# Altium integrated library Integrated_Library1.IntLib: 2483 symbols (part 9 of 13)
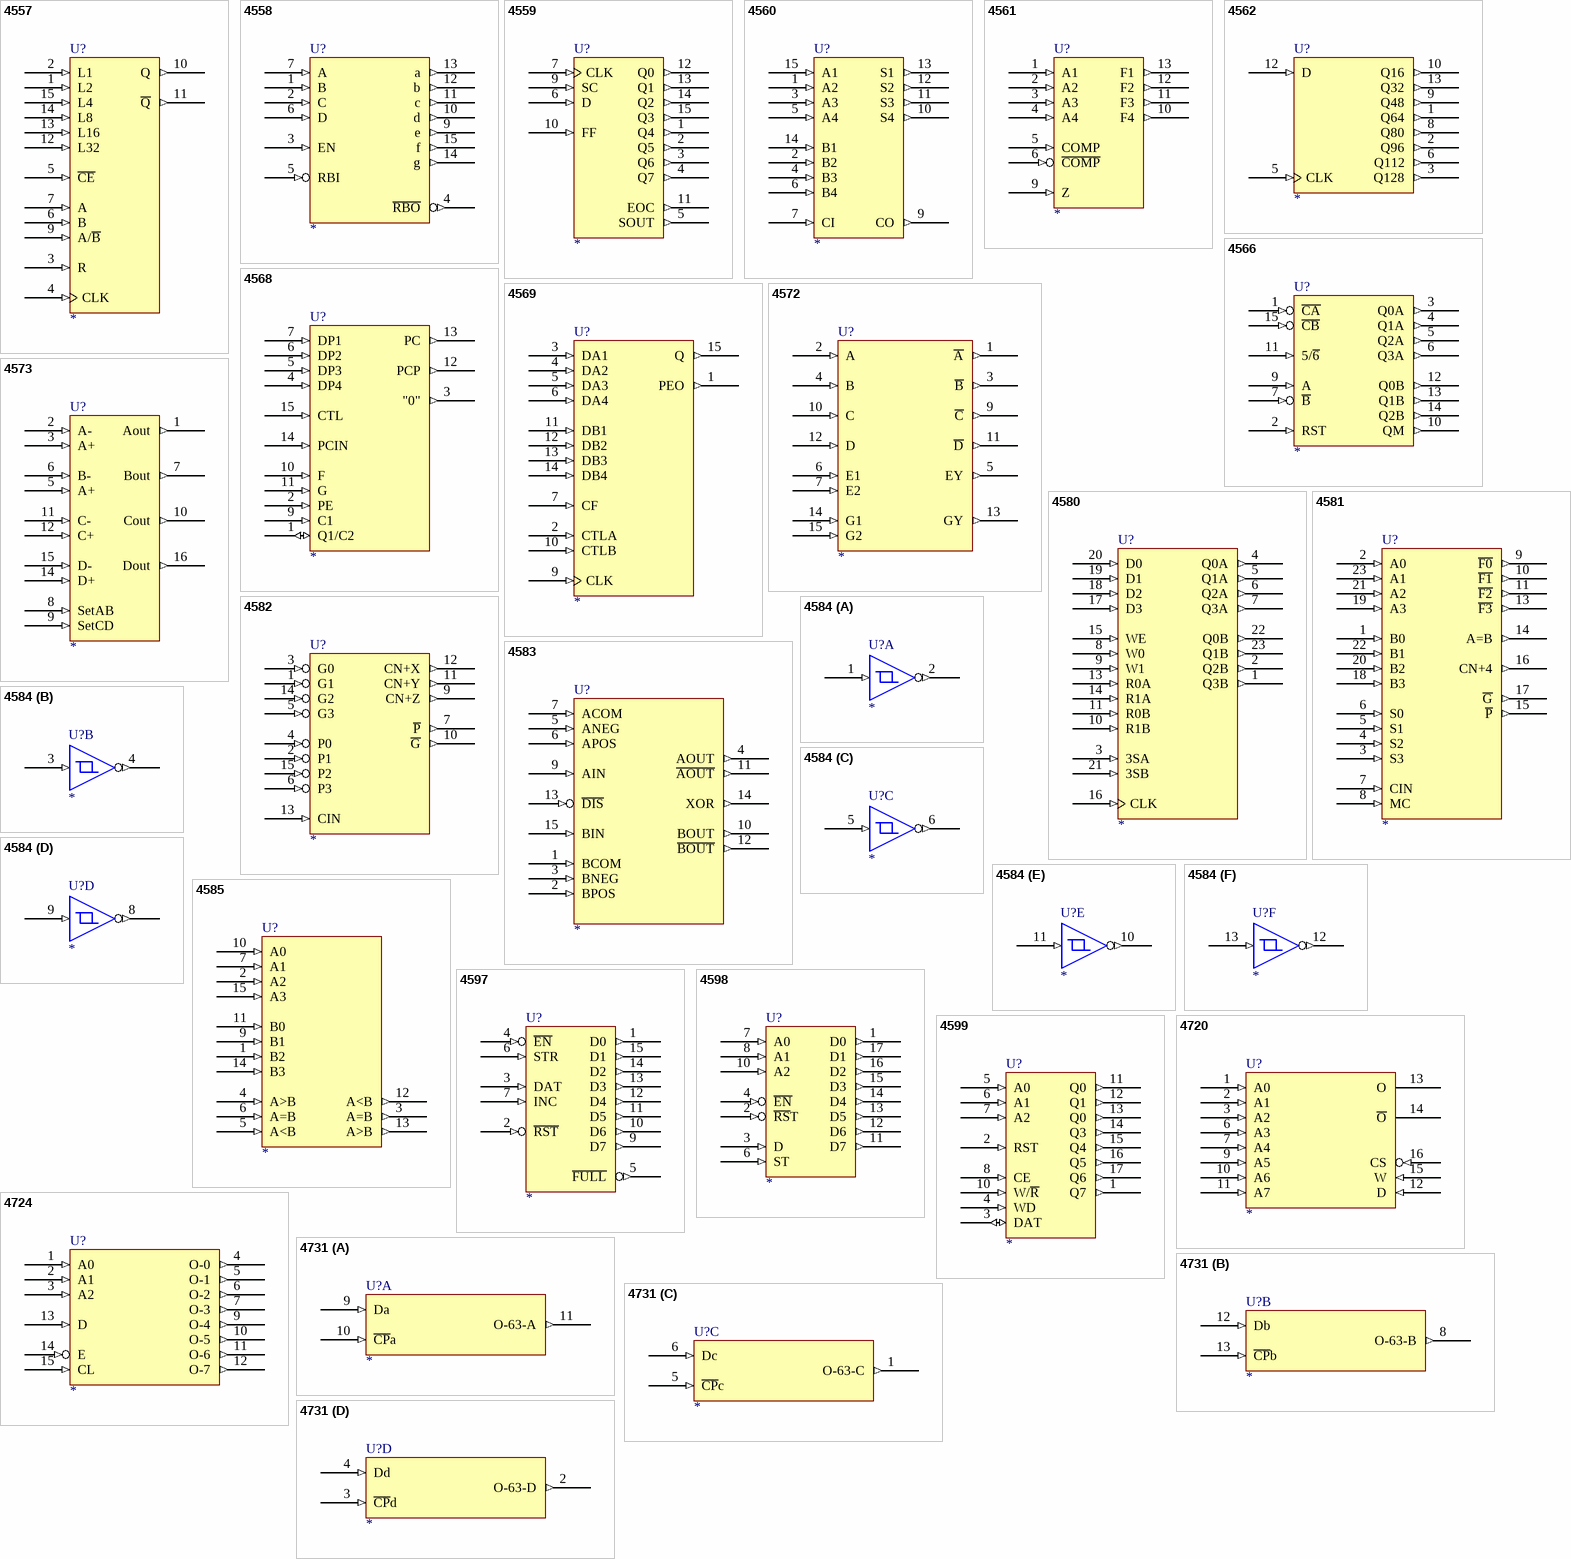
[diagram p116: symbols 4557 to 4731]

## 4569
designator U?
footprint DIP-16
pins: 1 PEO (out), 2 CTLA (in), 3 DA1 (in), 4 DA2 (in), 5 DA3 (in), 6 DA4 (in), 7 CF (in), 8 GND (power) hidden to GND, 9 CLK (in), 10 CTLB (in), 11 DB1 (in), 12 DB2 (in), 13 DB3 (in), 14 DB4 (in), 15 Q (out), 16 VCC (power) hidden to VCC

## 4572
designator U?
footprint DIP-16
pins: 1 ~{A} (out), 2 A (in), 3 ~{B} (out), 4 B (in), 5 EY (out), 6 E1 (in), 7 E2 (in), 8 GND (power) hidden to GND, 9 ~{C} (out), 10 C (in), 11 ~{D} (out), 12 D (in), 13 GY (out), 14 G1 (in), 15 G2 (in), 16 VCC (power) hidden to VCC

## 4573
designator U?
footprint DIP-16
pins: 1 Aout (out), 2 A- (in), 3 A+ (in), 4 VCC (power) hidden to VCC, 5 A+ (in), 6 B- (in), 7 Bout (out), 8 SetAB (in), 9 SetCD (in), 10 Cout (out), 11 C- (in), 12 C+ (in), 13 GND (power) hidden to GND, 14 D+ (in), 15 D- (in), 16 Dout (out)

## 4580
designator U?
footprint DIP-24
pins: 1 Q3B (out), 2 Q2B (out), 3 3SA (in), 4 Q0A (out), 5 Q1A (out), 6 Q2A (out), 7 Q3A (out), 8 W0 (in), 9 W1 (in), 10 R1B (in), 11 R0B (in), 12 GND (power) hidden to GND, 13 R0A (in), 14 R1A (in), 15 WE (in), 16 CLK (in), 17 D3 (in), 18 D2 (in), 19 D1 (in), 20 D0 (in), 21 3SB (in), 22 Q0B (out), 23 Q1B (out), 24 VCC (power) hidden to VCC

## 4581
designator U?
footprint DIP-24
pins: 1 B0 (in), 2 A0 (in), 3 S3 (in), 4 S2 (in), 5 S1 (in), 6 S0 (in), 7 CIN (in), 8 MC (in), 9 ~{F0} (out), 10 ~{F1} (out), 11 ~{F2} (out), 12 GND (power) hidden to GND, 13 ~{F3} (out), 14 A=B (out), 15 ~{P} (out), 16 CN+4 (out), 17 ~{G} (out), 18 B3 (in), 19 A3 (in), 20 B2 (in), 21 A2 (in), 22 B1 (in), 23 A1 (in), 24 VCC (power) hidden to VCC

## 4582
designator U?
footprint DIP-16
pins: 1 G1 (in), 2 P1 (in), 3 G0 (in), 4 P0 (in), 5 G3 (in), 6 P3 (in), 7 ~{P} (out), 8 GND (power) hidden to GND, 9 CN+Z (out), 10 ~{G} (out), 11 CN+Y (out), 12 CN+X (out), 13 CIN (in), 14 G2 (in), 15 P2 (in), 16 VCC (power) hidden to VCC

## 4583
designator U?
footprint DIP-16
pins: 1 BCOM (in), 2 BPOS (in), 3 BNEG (in), 4 AOUT (out), 5 ANEG (in), 6 APOS (in), 7 ACOM (in), 8 GND (power) hidden to GND, 9 AIN (in), 10 BOUT (out), 11 ~{AOUT} (out), 12 ~{BOUT} (out), 13 ~{DIS} (in), 14 XOR (out), 15 BIN (in), 16 VCC (power) hidden to VCC

## 4584
designator U?
footprint DIP-14
part A pins: 1 (in), 2 (out), 7 GND (power) hidden to GND, 14 VCC (power) hidden to VCC
part B pins: 3 (in), 4 (out), 7 GND (power) hidden to GND, 14 VCC (power) hidden to VCC
part C pins: 5 (in), 6 (out), 7 GND (power) hidden to GND, 14 VCC (power) hidden to VCC
part D pins: 7 GND (power) hidden to GND, 8 (out), 9 (in), 14 VCC (power) hidden to VCC
part E pins: 7 GND (power) hidden to GND, 10 (out), 11 (in), 14 VCC (power) hidden to VCC
part F pins: 7 GND (power) hidden to GND, 12 (out), 13 (in), 14 VCC (power) hidden to VCC

## 4585
designator U?
footprint DIP-16
pins: 1 B2 (in), 2 A2 (in), 3 A=B (out), 4 A>B (in), 5 A<B (in), 6 A=B (in), 7 A1 (in), 8 GND (power) hidden to GND, 9 B1 (in), 10 A0 (in), 11 B0 (in), 12 A<B (out), 13 A>B (out), 14 B3 (in), 15 A3 (in), 16 VCC (power) hidden to VCC

## 4597
designator U?
footprint DIP-16
pins: 1 D0 (out), 2 ~{RST} (in), 3 DAT (in), 4 ~{EN} (in), 5 ~{FULL} (out), 6 STR (in), 7 INC (in), 8 GND (power) hidden to GND, 9 D7 (out), 10 D6 (out), 11 D5 (out), 12 D4 (out), 13 D3 (out), 14 D2 (out), 15 D1 (out), 16 VCC (power) hidden to VCC

## 4598
designator U?
footprint DIP-16
pins: 1 D0 (out), 2 ~{RS}T (in), 3 D (in), 4 ~{EN} (in), 6 ST (in), 7 A0 (in), 8 A1 (in), 8 GND (power) hidden to GND, 10 A2 (in), 11 D7 (out), 12 D6 (out), 13 D5 (out), 14 D4 (out), 15 D3 (out), 16 D2 (out), 16 VCC (power) hidden to VCC, 17 D1 (out)

## 4599
designator U?
footprint DIP-18
pins: 1 Q7 (out), 2 RST (in), 3 DAT (io), 4 WD (in), 5 A0 (in), 6 A1 (in), 7 A2 (in), 8 CE (in), 9 GND (power) hidden to GND, 10 W/~{R} (in), 11 Q0 (out), 12 Q1 (out), 13 Q0 (out), 14 Q3 (out), 15 Q4 (out), 16 Q5 (out), 17 Q6 (out), 18 VCC (power) hidden to VCC

## 4720
designator U?
footprint DIP-16
pins: 1 A0 (in), 2 A1 (in), 3 A2 (in), 5 VCC (power) hidden to VCC, 6 A3 (in), 7 A4 (in), 8 GND (power) hidden to GND, 9 A5 (in), 10 A6 (in), 11 A7 (in), 12 D (in), 13 O (hiz), 14 ~{O} (hiz), 15 W (in), 16 CS (in)

## 4724
designator U?
footprint DIP-16
pins: 1 A0 (in), 2 A1 (in), 3 A2 (in), 4 O-0 (out), 5 O-1 (out), 6 O-2 (out), 7 O-3 (out), 8 GND (power) hidden to GND, 9 O-4 (out), 10 O-5 (out), 11 O-6 (out), 12 O-7 (out), 13 D (in), 14 E (in), 15 CL (in), 16 VCC (power) hidden to VCC

## 4731
designator U?
footprint DIP-14
part A pins: 7 GND (power) hidden to GND, 9 Da (in), 10 ~{CP}a (in), 11 O-63-A (out), 14 VCC (power) hidden to VCC
part B pins: 7 GND (power) hidden to GND, 8 O-63-B (out), 12 Db (in), 13 ~{CP}b (in), 14 VCC (power) hidden to VCC
part C pins: 1 O-63-C (out), 5 ~{CP}c (in), 6 Dc (in), 7 GND (power) hidden to GND, 14 VCC (power) hidden to VCC
part D pins: 2 O-63-D (out), 3 ~{CP}d (in), 4 Dd (in), 7 GND (power) hidden to GND, 14 VCC (power) hidden to VCC

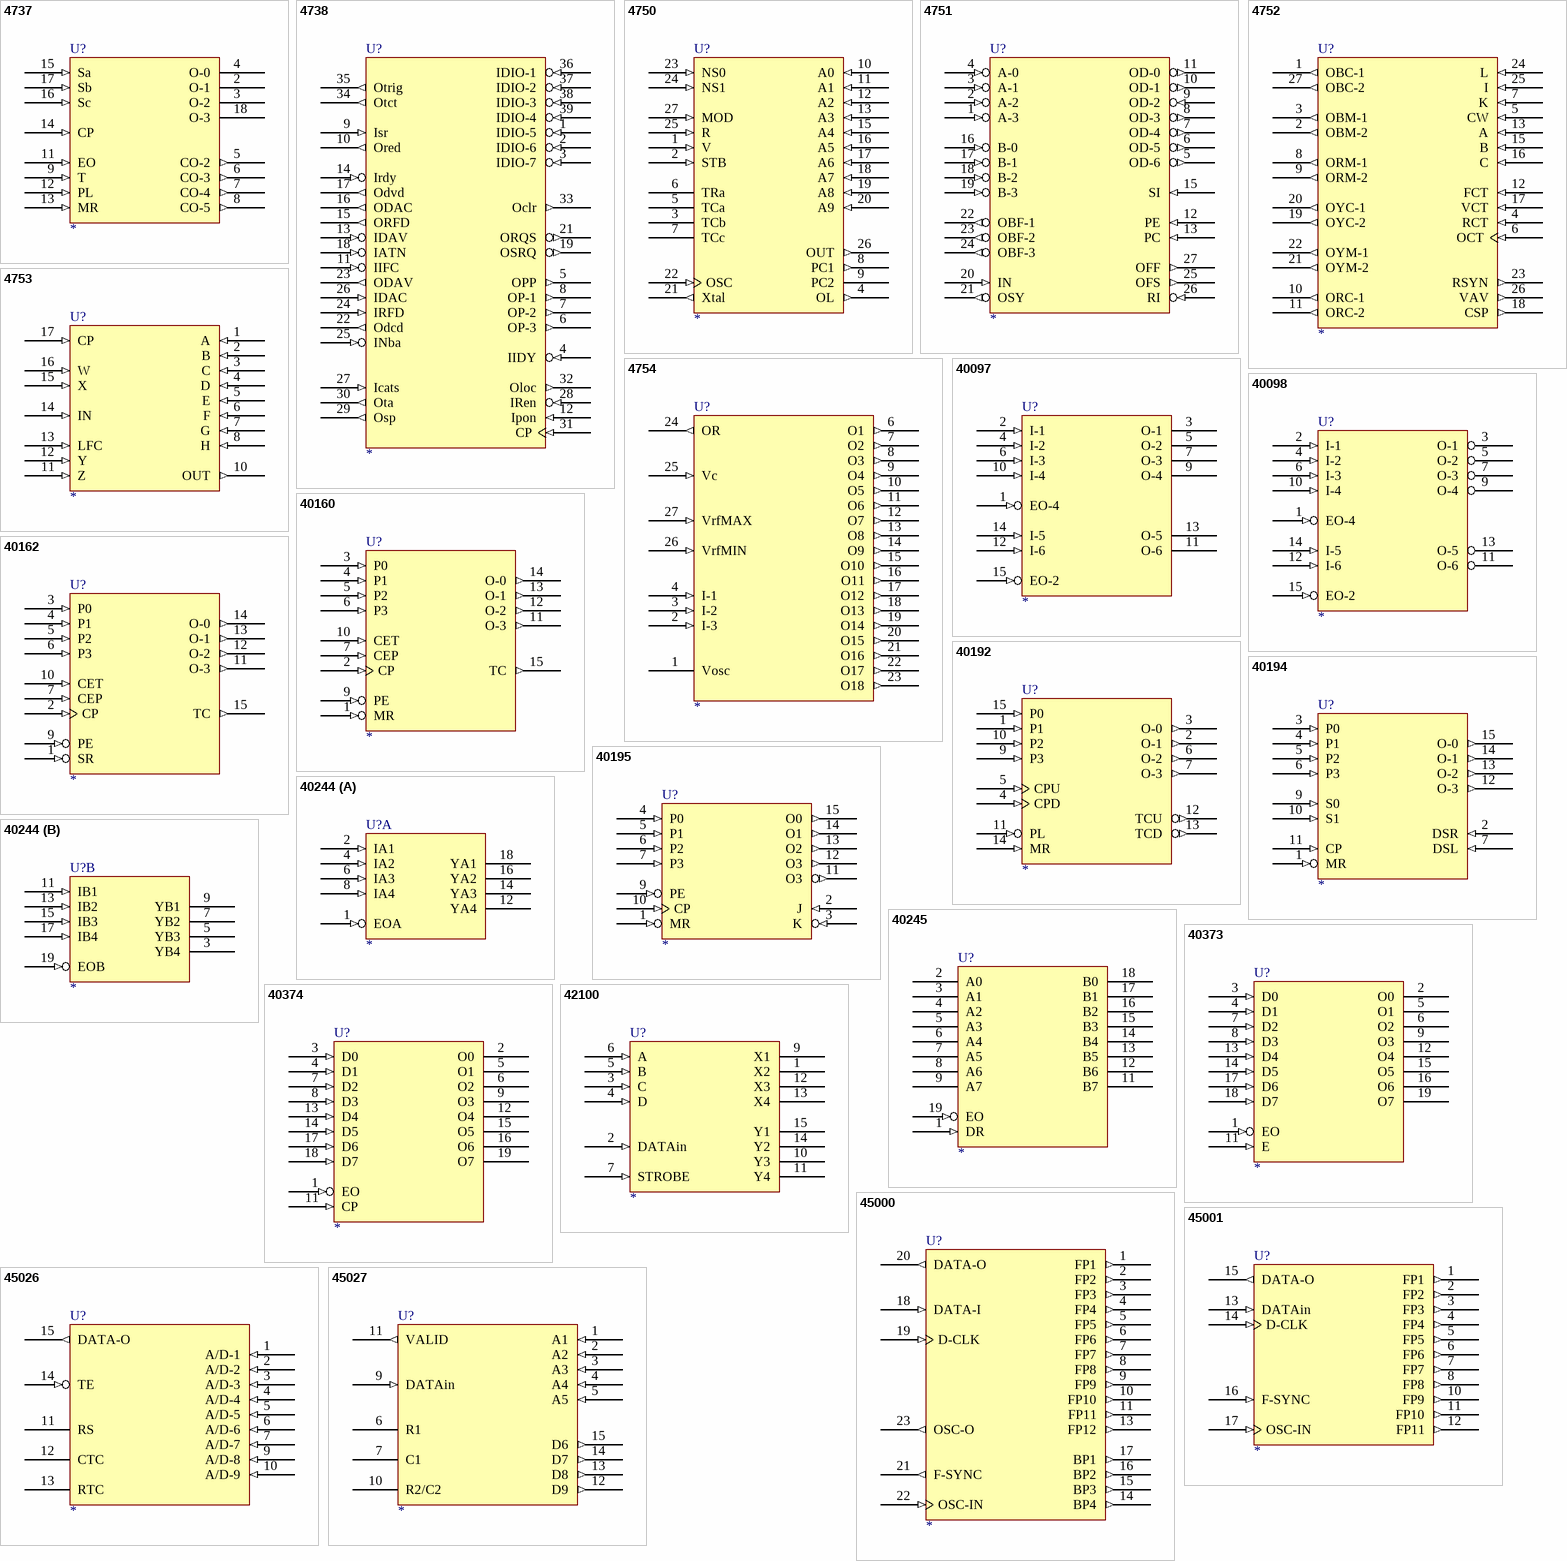
[diagram p60: symbols 4737 to 45027]

## 4737
designator U?
footprint DIP-18
pins: 1 GND (power) hidden to GND, 2 O-1 (hiz), 3 O-2 (hiz), 4 O-0 (hiz), 5 CO-2 (out), 6 CO-3 (out), 7 CO-4 (out), 8 CO-5 (out), 9 T (in), 10 VCC (power) hidden to VCC, 11 EO (in), 12 PL (in), 13 MR (in), 14 CP (in), 15 Sa (in), 16 Sc (in), 17 Sb (in), 18 O-3 (hiz)

## 4738
designator U?
footprint DIP-40
pins: 1 IDIO-5 (in), 2 IDIO-6 (in), 3 IDIO-7 (in), 4 IIDY (in), 5 OPP (out), 6 OP-3 (out), 7 OP-2 (out), 8 OP-1 (out), 9 Isr (in), 10 Ored (out), 11 IIFC (in), 12 Ipon (in), 13 IDAV (in), 14 Irdy (in), 15 ORFD (out), 16 ODAC (out), 17 Odvd (out), 18 IATN (in), 19 OSRQ (out), 20 GND (power) hidden to GND, 21 ORQS (out), 22 Odcd (out), 23 ODAV (out), 24 IRFD (in), 25 INba (in), 26 IDAC (in), 27 Icats (in), 28 IRen (in), 29 Osp (out), 30 Ota (out), 31 CP (in), 32 Oloc (out), 33 Oclr (out), 34 Otct (out), 35 Otrig (out), 36 IDIO-1 (in), 37 IDIO-2 (in), 38 IDIO-3 (in), 39 IDIO-4 (in), 40 VCC (power) hidden to VCC

## 4750
designator U?
footprint DIP-28
pins: 1 V (in), 2 STB (in), 3 TCb, 4 OL (out), 5 TCa, 6 TRa, 7 TCc, 8 PC1 (out), 9 PC2 (hiz), 10 A0 (in), 11 A1 (in), 12 A2 (in), 13 A3 (in), 14 GND (power) hidden to GND, 15 A4 (in), 16 A5 (in), 17 A6 (in), 18 A7 (in), 19 A8 (in), 20 A9 (in), 21 Xtal (out), 22 OSC (in), 23 NS0 (in), 24 NS1 (in), 25 R (in), 26 OUT (out), 27 MOD (in), 28 VCC (power) hidden to VCC

## 4751
designator U?
footprint DIP-28
pins: 1 A-3 (in), 2 A-2 (in), 3 A-1 (in), 4 A-0 (in), 5 OD-6 (out), 6 OD-5 (out), 7 OD-4 (out), 8 OD-3 (out), 9 OD-2 (in), 10 OD-1 (out), 11 OD-0 (out), 12 PE (in), 13 PC (in), 14 GND (power) hidden to GND, 15 SI (in), 16 B-0 (in), 17 B-1 (in), 18 B-2 (in), 19 B-3 (in), 20 IN (in), 21 OSY (out), 22 OBF-1 (out), 23 OBF-2 (out), 24 OBF-3 (out), 25 OFS (out), 26 RI (in), 27 OFF (out), 28 VCC (power) hidden to VCC

## 4752
designator U?
footprint DIP-28
pins: 1 OBC-1 (out), 2 OBM-2 (out), 3 OBM-1 (out), 4 RCT (in), 5 CW (in), 6 OCT (in), 7 K (in), 8 ORM-1 (out), 9 ORM-2 (out), 10 ORC-1 (out), 11 ORC-2 (out), 12 FCT (in), 13 A (in), 14 GND (power) hidden to GND, 15 B (in), 16 C (in), 17 VCT (in), 18 CSP (out), 19 OYC-2 (out), 20 OYC-1 (out), 21 OYM-2 (out), 22 OYM-1 (out), 23 RSYN (out), 24 L (in), 25 I (in), 26 VAV (out), 27 OBC-2 (out), 28 VCC (power) hidden to VCC

## 4753
designator U?
footprint DIP-18
pins: 1 A (in), 2 B (in), 3 C (in), 4 D (in), 5 E (in), 6 F (in), 7 G (in), 8 H (in), 9 GND (power) hidden to GND, 10 OUT (out), 11 Z (in), 12 Y (in), 13 LFC (in), 14 IN (in), 15 X (in), 16 W (in), 17 CP (in), 18 VCC (power) hidden to VCC

## 4754
designator U?
footprint DIP-28
pins: 1 Vosc, 2 I-3 (in), 3 I-2 (in), 4 I-1 (in), 5 GND (power) hidden to GND, 6 O1 (out), 7 O2 (out), 8 O3 (out), 9 O4 (out), 10 O5 (out), 11 O6 (out), 12 O7 (out), 13 O8 (out), 14 O9 (out), 15 O10 (out), 16 O11 (out), 17 O12 (out), 18 O13 (out), 19 O14 (out), 20 O15 (out), 21 O16 (out), 22 O17 (out), 23 O18 (out), 24 OR (out), 25 Vc (in), 26 VrfMIN (in), 27 VrfMAX (in), 28 VCC (power) hidden to VCC

## 40097
designator U?
footprint DIP-16
pins: 1 EO-4 (in), 2 I-1 (in), 3 O-1 (hiz), 4 I-2 (in), 5 O-2 (hiz), 6 I-3 (in), 7 O-3 (hiz), 8 GND (power) hidden to GND, 9 O-4 (hiz), 10 I-4 (in), 11 O-6 (hiz), 12 I-6 (in), 13 O-5 (hiz), 14 I-5 (in), 15 EO-2 (in), 16 VCC (power) hidden to VCC

## 40098
designator U?
footprint DIP-16
pins: 1 EO-4 (in), 2 I-1 (in), 3 O-1 (hiz), 4 I-2 (in), 5 O-2 (hiz), 6 I-3 (in), 7 O-3 (hiz), 8 GND (power) hidden to GND, 9 O-4 (hiz), 10 I-4 (in), 11 O-6 (hiz), 12 I-6 (in), 13 O-5 (hiz), 14 I-5 (in), 15 EO-2 (in), 16 VCC (power) hidden to VCC

## 40160
designator U?
footprint DIP-16
pins: 1 MR (in), 2 CP (in), 3 P0 (in), 4 P1 (in), 5 P2 (in), 6 P3 (in), 7 CEP (in), 8 GND (power) hidden to GND, 9 PE (in), 10 CET (in), 11 O-3 (out), 12 O-2 (out), 13 O-1 (out), 14 O-0 (out), 15 TC (out), 16 VCC (power) hidden to VCC

## 40162
designator U?
footprint DIP-16
pins: 1 SR (in), 2 CP (in), 3 P0 (in), 4 P1 (in), 5 P2 (in), 6 P3 (in), 7 CEP (in), 8 GND (power) hidden to GND, 9 PE (in), 10 CET (in), 11 O-3 (out), 12 O-2 (out), 13 O-1 (out), 14 O-0 (out), 15 TC (out), 16 VCC (power) hidden to VCC

## 40192
designator U?
footprint DIP-16
pins: 1 P1 (in), 2 O-1 (out), 3 O-0 (out), 4 CPD (in), 5 CPU (in), 6 O-2 (out), 7 O-3 (out), 8 GND (power) hidden to GND, 9 P3 (in), 10 P2 (in), 11 PL (in), 12 TCU (out), 13 TCD (out), 14 MR (in), 15 P0 (in), 16 VCC (power) hidden to VCC

## 40194
designator U?
footprint DIP-16
pins: 1 MR (in), 2 DSR (in), 3 P0 (in), 4 P1 (in), 5 P2 (in), 6 P3 (in), 7 DSL (in), 8 GND (power) hidden to GND, 9 S0 (in), 10 S1 (in), 11 CP (in), 12 O-3 (out), 13 O-2 (out), 14 O-1 (out), 15 O-0 (out), 16 VCC (power) hidden to VCC

## 40195
designator U?
footprint DIP-16
pins: 1 MR (in), 2 J (in), 3 K (in), 4 P0 (in), 5 P1 (in), 6 P2 (in), 7 P3 (in), 8 GND (power) hidden to GND, 9 PE (in), 10 CP (in), 11 O3 (out), 12 O3 (out), 13 O2 (out), 14 O1 (out), 15 O0 (out), 16 VCC (power) hidden to VCC

## 40244
designator U?
footprint DIP-20
part A pins: 1 EOA (in), 2 IA1 (in), 4 IA2 (in), 6 IA3 (in), 8 IA4 (in), 10 GND (power) hidden to GND, 12 YA4 (hiz), 14 YA3 (hiz), 16 YA2 (hiz), 18 YA1 (hiz), 20 VCC (power) hidden to VCC
part B pins: 3 YB4 (hiz), 5 YB3 (hiz), 7 YB2 (hiz), 9 YB1 (hiz), 10 GND (power) hidden to GND, 11 IB1 (in), 13 IB2 (in), 15 IB3 (in), 17 IB4 (in), 19 EOB (in), 20 VCC (power) hidden to VCC

## 40245
designator U?
footprint DIP-20
pins: 1 DR (in), 2 A0 (hiz), 3 A1 (hiz), 4 A2 (hiz), 5 A3 (hiz), 6 A4 (hiz), 7 A5 (hiz), 8 A6 (hiz), 9 A7 (hiz), 10 GND (power) hidden to GND, 11 B7 (hiz), 12 B6 (hiz), 13 B5 (hiz), 14 B4 (hiz), 15 B3 (hiz), 16 B2 (hiz), 17 B1 (hiz), 18 B0 (hiz), 19 EO (in), 20 VCC (power) hidden to VCC

## 40373
designator U?
footprint DIP-20
pins: 1 EO (in), 2 O0 (hiz), 3 D0 (in), 4 D1 (in), 5 O1 (hiz), 6 O2 (hiz), 7 D2 (in), 8 D3 (in), 9 O3 (hiz), 10 GND (power) hidden to GND, 11 E (in), 12 O4 (hiz), 13 D4 (in), 14 D5 (in), 15 O5 (hiz), 16 O6 (hiz), 17 D6 (in), 18 D7 (in), 19 O7 (hiz), 20 VCC (power) hidden to VCC

## 40374
designator U?
footprint DIP-20
pins: 1 EO (in), 2 O0 (hiz), 3 D0 (in), 4 D1 (in), 5 O1 (hiz), 6 O2 (hiz), 7 D2 (in), 8 D3 (in), 9 O3 (hiz), 10 GND (power) hidden to GND, 11 CP (in), 12 O4 (hiz), 13 D4 (in), 14 D5 (in), 15 O5 (hiz), 16 O6 (hiz), 17 D6 (in), 18 D7 (in), 19 O7 (hiz), 20 VCC (power) hidden to VCC

## 42100
designator U?
footprint DIP-16
pins: 1 X2, 2 DATAin (in), 3 C (in), 4 D (in), 5 B (in), 6 A (in), 7 STROBE (in), 8 GND (power) hidden to GND, 9 X1, 10 Y3, 11 Y4, 12 X3, 13 X4, 14 Y2, 15 Y1, 16 VCC (power) hidden to VCC

## 45000
designator U?
footprint DIP-24
pins: 1 FP1 (out), 2 FP2 (out), 3 FP3 (out), 4 FP4 (out), 5 FP5 (out), 6 FP6 (out), 7 FP7 (out), 8 FP8 (out), 9 FP9 (out), 10 FP10 (out), 11 FP11 (out), 12 GND (power) hidden to GND, 13 FP12 (out), 14 BP4 (out), 15 BP3 (out), 16 BP2 (out), 17 BP1 (out), 18 DATA-I (in), 19 D-CLK (in), 20 DATA-O (out), 21 F-SYNC (out), 22 OSC-IN (in), 23 OSC-O (out), 24 VCC (power) hidden to VCC

## 45001
designator U?
footprint DIP-18
pins: 1 FP1 (out), 2 FP2 (out), 3 FP3 (out), 4 FP4 (out), 5 FP5 (out), 6 FP6 (out), 7 FP7 (out), 8 FP8 (out), 9 GND (power) hidden to GND, 10 FP9 (out), 11 FP10 (out), 12 FP11 (out), 13 DATAin (in), 14 D-CLK (in), 15 DATA-O (out), 16 F-SYNC (in), 17 OSC-IN (in), 18 VCC (power) hidden to VCC

## 45026
designator U?
footprint DIP-16
pins: 1 A/D-1 (in), 2 A/D-2 (in), 3 A/D-3 (in), 4 A/D-4 (in), 5 A/D-5 (in), 6 A/D-6 (in), 7 A/D-7 (in), 8 GND (power) hidden to GND, 9 A/D-8 (in), 10 A/D-9 (in), 11 RS, 12 CTC, 13 RTC, 14 TE (in), 15 DATA-O (out), 16 VCC (power) hidden to VCC

## 45027
designator U?
footprint DIP-16
pins: 1 A1 (in), 2 A2 (in), 3 A3 (in), 4 A4 (in), 5 A5 (in), 6 R1, 7 C1, 8 GND (power) hidden to GND, 9 DATAin (in), 10 R2/C2, 11 VALID (out), 12 D9 (out), 13 D8 (out), 14 D7 (out), 15 D6 (out), 16 VCC (power) hidden to VCC

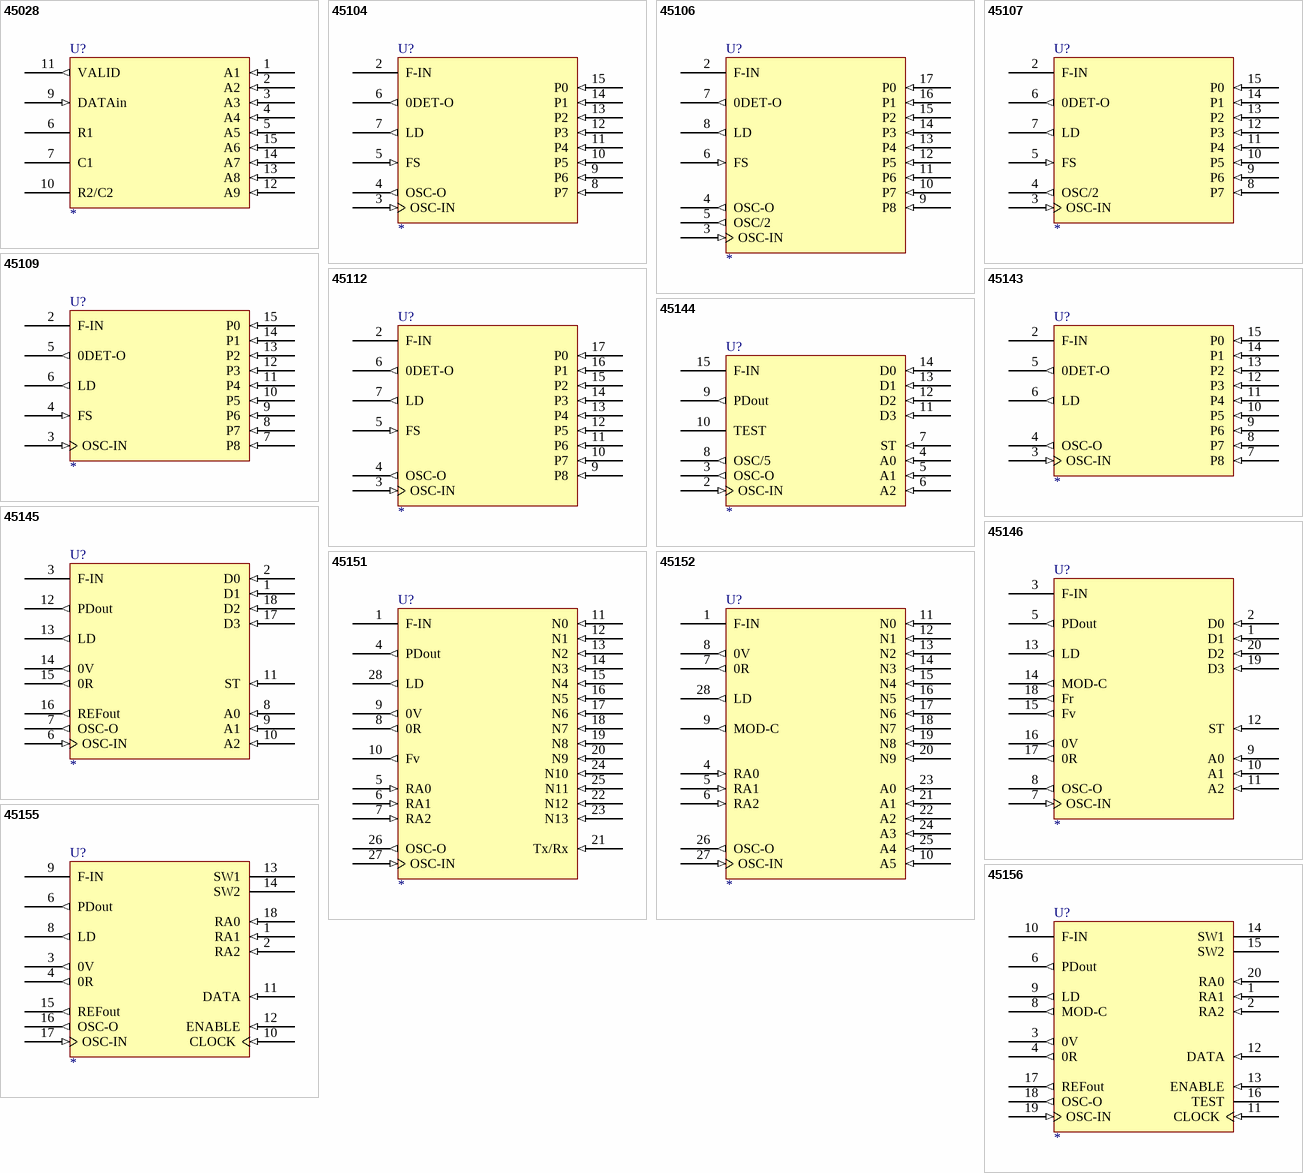
[diagram p61: symbols 45028 to 45156]

## 45028
designator U?
footprint DIP-16
pins: 1 A1 (in), 2 A2 (in), 3 A3 (in), 4 A4 (in), 5 A5 (in), 6 R1, 7 C1, 8 GND (power) hidden to GND, 9 DATAin (in), 10 R2/C2, 11 VALID (out), 12 A9 (in), 13 A8 (in), 14 A7 (in), 15 A6 (in), 16 VCC (power) hidden to VCC

## 45104
designator U?
footprint DIP-16
pins: 1 VCC (power) hidden to VCC, 2 F-IN, 3 OSC-IN (in), 4 OSC-O (out), 5 FS (in), 6 0DET-O (out), 7 LD (out), 8 P7 (in), 9 P6 (in), 10 P5 (in), 11 P4 (in), 12 P3 (in), 13 P2 (in), 14 P1 (in), 15 P0 (in), 16 GND (power) hidden to GND

## 45106
designator U?
footprint DIP-18
pins: 1 VCC (power) hidden to VCC, 2 F-IN, 3 OSC-IN (in), 4 OSC-O (out), 5 OSC/2 (out), 6 FS (in), 7 0DET-O (out), 8 LD (out), 9 P8 (in), 10 P7 (in), 11 P6 (in), 12 P5 (in), 13 P4 (in), 14 P3 (in), 15 P2 (in), 16 P1 (in), 17 P0 (in), 18 GND (power) hidden to GND

## 45107
designator U?
footprint DIP-16
pins: 1 VCC (power) hidden to VCC, 2 F-IN, 3 OSC-IN (in), 4 OSC/2 (out), 5 FS (in), 6 0DET-O (out), 7 LD (out), 8 P7 (in), 9 P6 (in), 10 P5 (in), 11 P4 (in), 12 P3 (in), 13 P2 (in), 14 P1 (in), 15 P0 (in), 16 GND (power) hidden to GND

## 45109
designator U?
footprint DIP-16
pins: 1 VCC (power) hidden to VCC, 2 F-IN, 3 OSC-IN (in), 4 FS (in), 5 0DET-O (out), 6 LD (out), 7 P8 (in), 8 P7 (in), 9 P6 (in), 10 P5 (in), 11 P4 (in), 12 P3 (in), 13 P2 (in), 14 P1 (in), 15 P0 (in), 16 GND (power) hidden to GND

## 45112
designator U?
footprint DIP-18
pins: 1 VCC (power) hidden to VCC, 2 F-IN, 3 OSC-IN (in), 4 OSC-O (out), 5 FS (in), 6 0DET-O (out), 7 LD (out), 9 P8 (in), 10 P7 (in), 11 P6 (in), 12 P5 (in), 13 P4 (in), 14 P3 (in), 15 P2 (in), 16 P1 (in), 17 P0 (in), 18 GND (power) hidden to GND

## 45143
designator U?
footprint DIP-16
pins: 1 VCC (power) hidden to VCC, 2 F-IN, 3 OSC-IN (in), 4 OSC-O (out), 5 0DET-O (out), 6 LD (out), 7 P8 (in), 8 P7 (in), 9 P6 (in), 10 P5 (in), 11 P4 (in), 12 P3 (in), 13 P2 (in), 14 P1 (in), 15 P0 (in), 16 GND (power) hidden to GND

## 45144
designator U?
footprint DIP-16
pins: 1 VCC (power) hidden to VCC, 2 OSC-IN (in), 3 OSC-O (out), 4 A0 (in), 5 A1 (in), 6 A2 (in), 7 ST (in), 8 OSC/5 (out), 9 PDout (out), 10 TEST, 11 D3 (in), 12 D2 (in), 13 D1 (in), 14 D0 (in), 15 F-IN, 16 GND (power) hidden to GND

## 45145
designator U?
footprint DIP-18
pins: 1 D1 (in), 2 D0 (in), 3 F-IN, 4 GND (power) hidden to GND, 5 VCC (power) hidden to VCC, 6 OSC-IN (in), 7 OSC-O (out), 8 A0 (in), 9 A1 (in), 10 A2 (in), 11 ST (in), 12 PDout (out), 13 LD (out), 14 0V (out), 15 0R (out), 16 REFout (out), 17 D3 (in), 18 D2 (in)

## 45146
designator U?
footprint DIP-20
pins: 1 D1 (in), 2 D0 (in), 3 F-IN, 4 GND (power) hidden to GND, 5 PDout (out), 6 VCC (power) hidden to VCC, 7 OSC-IN (in), 8 OSC-O (out), 9 A0 (in), 10 A1 (in), 11 A2 (in), 12 ST (in), 13 LD (out), 14 MOD-C (out), 15 Fv (out), 16 0V (out), 17 0R (out), 18 Fr (out), 19 D3 (in), 20 D2 (in)

## 45151
designator U?
footprint DIP-28
pins: 1 F-IN, 2 GND (power) hidden to GND, 3 VCC (power) hidden to VCC, 4 PDout (out), 5 RA0 (in), 6 RA1 (in), 7 RA2 (in), 8 0R (out), 9 0V (out), 10 Fv (out), 11 N0 (in), 12 N1 (in), 13 N2 (in), 14 N3 (in), 15 N4 (in), 16 N5 (in), 17 N6 (in), 18 N7 (in), 19 N8 (in), 20 N9 (in), 21 Tx/Rx (in), 22 N12 (in), 23 N13 (in), 24 N10 (in), 25 N11 (in), 26 OSC-O (out), 27 OSC-IN (in), 28 LD (out)

## 45152
designator U?
footprint DIP-28
pins: 1 F-IN, 2 GND (power) hidden to GND, 3 VCC (power) hidden to VCC, 4 RA0 (in), 5 RA1 (in), 6 RA2 (in), 7 0R (out), 8 0V (out), 9 MOD-C (out), 10 A5 (in), 11 N0 (in), 12 N1 (in), 13 N2 (in), 14 N3 (in), 15 N4 (in), 16 N5 (in), 17 N6 (in), 18 N7 (in), 19 N8 (in), 20 N9 (in), 21 A1 (in), 22 A2 (in), 23 A0 (in), 24 A3 (in), 25 A4 (in), 26 OSC-O (out), 27 OSC-IN (in), 28 LD (out)

## 45155
designator U?
footprint DIP-18
pins: 1 RA1 (in), 2 RA2 (in), 3 0V (out), 4 0R (out), 5 VCC (power) hidden to VCC, 6 PDout (out), 7 GND (power) hidden to GND, 8 LD (out), 9 F-IN, 10 CLOCK (in), 11 DATA (in), 12 ENABLE (in), 13 SW1 (oc), 14 SW2 (oc), 15 REFout (out), 16 OSC-O (out), 17 OSC-IN (in), 18 RA0 (in)

## 45156
designator U?
footprint DIP-20
pins: 1 RA1 (in), 2 RA2 (in), 3 0V (out), 4 0R (out), 5 VCC (power) hidden to VCC, 6 PDout (out), 7 GND (power) hidden to GND, 8 MOD-C (out), 9 LD (out), 10 F-IN, 11 CLOCK (in), 12 DATA (in), 13 ENABLE (in), 14 SW1 (oc), 15 SW2 (oc), 16 TEST, 17 REFout (out), 18 OSC-O (out), 19 OSC-IN (in), 20 RA0 (in)


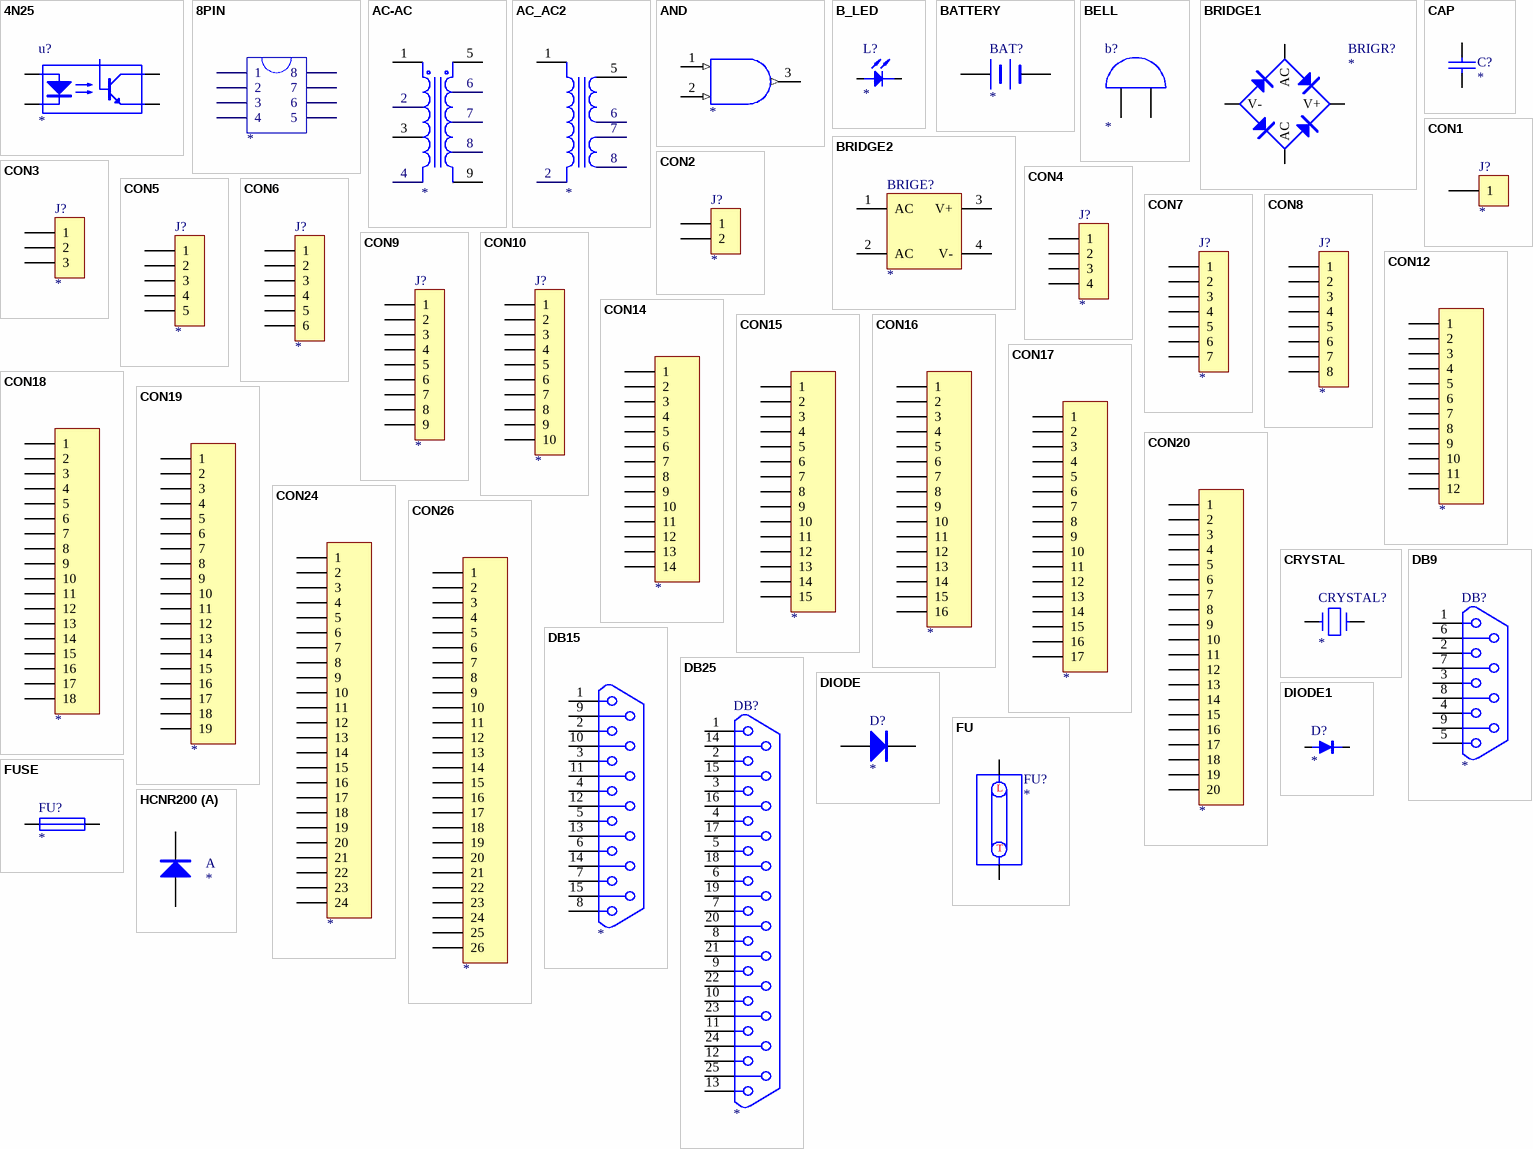
[diagram p62: symbols 4N25 to HCNR200]

## 4N25
designator u?
footprint DIP6
pins: 1 LED Anode, 2 LED Cathode, 3 Emitter, 4 Collector

## 8PIN
designator ?
pins: 1, 2, 3, 4, 5, 6, 7, 8

## AC-AC
designator ?
pins: 1 Pri+, 2, 3 Pri-, 4, 5 Sec+, 6 sec, 7 sec-, 8, 9 Sec-

## AC_AC2
designator ?
pins: 1 Pri+, 2, 5 Sec+, 6 sec, 7 sec-, 8

## AND
designator ?
pins: 1 A (in), 2 B (in), 3 Y (out)

## B_LED
designator L?
footprint LED
pins: A, K

## BATTERY
designator BAT?
footprint BATTERY
pins: 1 +, 2 -

## BELL
designator b?
footprint bell
pins: 1, 2

## BRIDGE1
designator BRIGR?
footprint BRIDGE3
pins: 1 AC, 2 AC, 3 V+, 4 V-

## BRIDGE2
designator BRIGE?
footprint BRIDGE3
pins: 1 AC, 2 AC, 3 V+, 4 V-

## CAP
designator C?
footprint RAD0.1
footprint RAD0.2
footprint RAD0.3
pins: 1, 2

## CON1
designator J?
footprint DG1281-5.0
footprint SIP1
pins: 1

## CON2
designator J?
footprint DG1282-5.0
footprint SIP2
footprint DG1282
pins: 1, 2

## CON3
designator J?
footprint DG1283-5.0
footprint SIP3
pins: 1, 2, 3

## CON4
designator J?
footprint DG1284-5.0
footprint SIP4
footprint DG1284
pins: 1, 2, 3, 4

## CON5
designator J?
footprint DG1285-5.0
footprint SIP5
pins: 1, 2, 3, 4, 5

## CON6
designator J?
footprint DG1286-5.0
footprint SIP6
footprint DG1286
pins: 1, 2, 3, 4, 5, 6

## CON7
designator J?
footprint DG1287-5.0
footprint SIP7
pins: 1, 2, 3, 4, 5, 6, 7

## CON8
designator J?
footprint DG1288-5.0
footprint SIP8
pins: 1, 2, 3, 4, 5, 6, 7, 8

## CON9
designator J?
footprint DG1289-5.0
footprint SIP9
pins: 1, 2, 3, 4, 5, 6, 7, 8, 9

## CON10
designator J?
footprint DG12810-5.0
footprint sip10
pins: 1, 2, 3, 4, 5, 6, 7, 8, 9, 10

## CON12
designator ?
pins: 1, 2, 3, 4, 5, 6, 7, 8, 9, 10, 11, 12

## CON14
designator ?
pins: 1, 2, 3, 4, 5, 6, 7, 8, 9, 10, 11, 12, 13, 14

## CON15
designator ?
pins: 1, 2, 3, 4, 5, 6, 7, 8, 9, 10, 11, 12, 13, 14, 15

## CON16
designator ?
pins: 1, 2, 3, 4, 5, 6, 7, 8, 9, 10, 11, 12, 13, 14, 15, 16

## CON17
designator ?
pins: 1, 2, 3, 4, 5, 6, 7, 8, 9, 10, 11, 12, 13, 14, 15, 16, 17

## CON18
designator ?
pins: 1, 2, 3, 4, 5, 6, 7, 8, 9, 10, 11, 12, 13, 14, 15, 16, 17, 18

## CON19
designator ?
pins: 1, 2, 3, 4, 5, 6, 7, 8, 9, 10, 11, 12, 13, 14, 15, 16, 17, 18, 19

## CON20
designator ?
pins: 1, 2, 3, 4, 5, 6, 7, 8, 9, 10, 11, 12, 13, 14, 15, 16, 17, 18, 19, 20

## CON24
designator ?
pins: 1, 2, 3, 4, 5, 6, 7, 8, 9, 10, 11, 12, 13, 14, 15, 16, 17, 18, 19, 20, 21, 22, 23, 24

## CON26
designator ?
pins: 1, 2, 3, 4, 5, 6, 7, 8, 9, 10, 11, 12, 13, 14, 15, 16, 17, 18, 19, 20, 21, 22, 23, 24, 25, 26

## CRYSTAL
designator CRYSTAL?
footprint XTAL
pins: 1, 2

## DB9
designator DB?
footprint DB9
pins: 1, 2, 3, 4, 5, 6, 7, 8, 9

## DB15
designator ?
pins: 1, 2, 3, 4, 5, 6, 7, 8, 9, 10, 11, 12, 13, 14, 15

## DB25
designator DB?
footprint DB25
pins: 1, 2, 3, 4, 5, 6, 7, 8, 9, 10, 11, 12, 13, 14, 15, 16, 17, 18, 19, 20, 21, 22, 23, 24, 25

## DIODE
designator D?
footprint DIODE0.4A
pins: A, K

## DIODE1
designator D?
footprint DIODE0.4A
pins: A, K

## FU
designator FU?
footprint FUSE1
footprint FUSE2
pins: L, T

## FUSE
designator FU?
footprint FUSE1
footprint FUSE2
pins: 1, 2

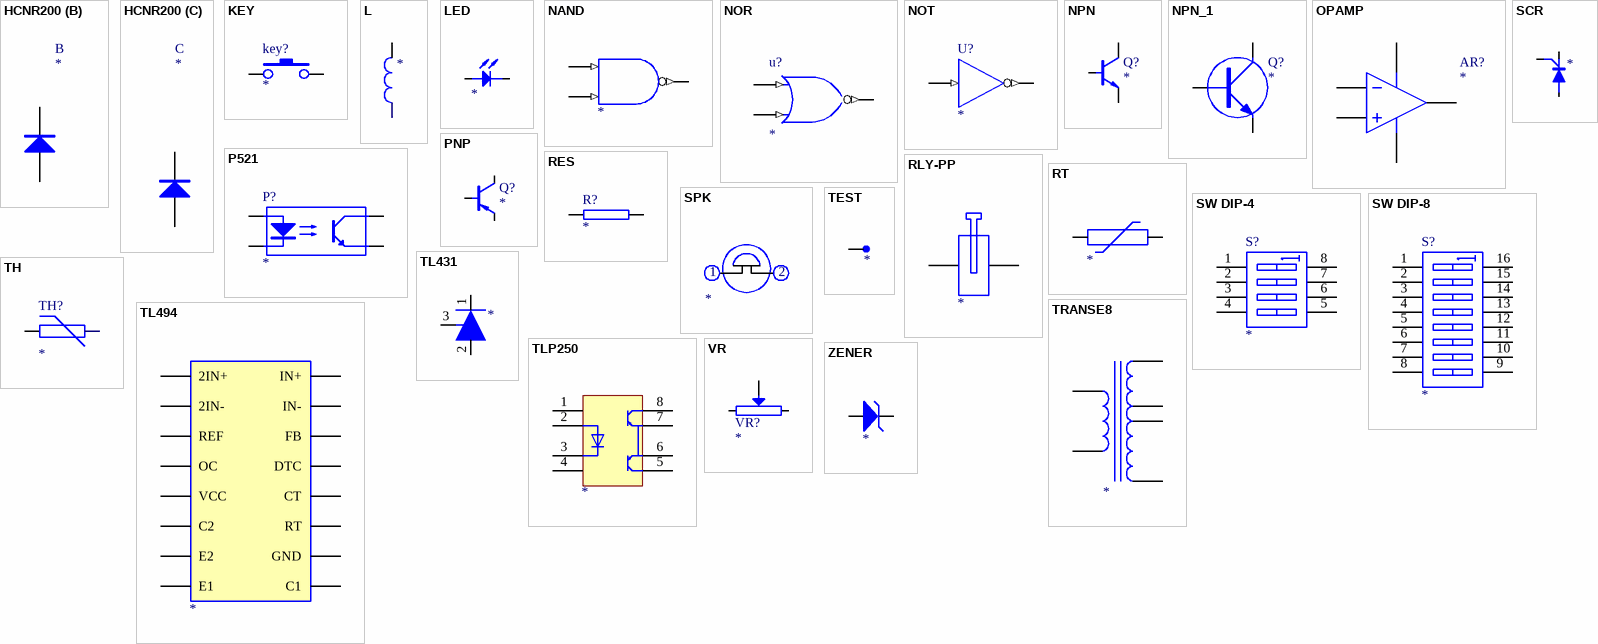
[diagram p63: symbols HCNR200 to ZENER]

## HCNR200
designator ?
part A pins: 1, 2
part B pins: 3, 4
part C pins: 5, 6

## KEY
designator key?
footprint AN12
footprint AN66
pins: 1, 2

## L
designator ?
pins: 1, 2

## LED
designator ?
footprint LED
pins: A, K

## NAND
designator ?
pins: 1 A (in), 2 B (in), 3 Y (out)

## NOR
designator u?
pins: 1 A (in), 2 B (in), 3 Y (out)

## NOT
designator U?
pins: 1 A (in), 2 Y (out)

## NPN
designator Q?
footprint TO-92
pins: B b, C c, E e

## NPN_1
designator Q?
NPN Transistor
pins: 1 E, 2 B, 3 C

## OPAMP
designator AR?
Operational Amplifier
pins: 1 IN-, 2 IN+, 3 OUT, 4 V+, 5 V-

## P521
designator P?
footprint DIP4
pins: 1 LED Anode, 2 LED Cathode, 3 Emitter, 4 Collector

## PNP
designator Q?
footprint TO-92
pins: B b, C c, E e

## RES
designator R?
footprint AXIAL0.4
footprint AXIAL0.5
pins: 1, 2

## RLY-PP
designator ?
pins: 7, 8

## RT
designator ?
pins: 1, 2

## SCR
designator ?
pins: A 2, G 1, K 3

## SPK
designator ?
text: 1; 2

## SW DIP-4
designator S?
DIP Switch
pins: 1 A1, 2 A2, 3 A3, 4 A4, 5 B4, 6 B3, 7 B2, 8 B1

## SW DIP-8
designator S?
DIP Switch
pins: 1 A1, 2 A2, 3 A3, 4 A4, 5 A5, 6 A6, 7 A7, 8 A8, 9 B8, 10 B7, 11 B6, 12 B5, 13 B4, 14 B3, 15 B2, 16 B1

## TEST
designator ?
pins: 1

## TH
designator TH?
footprint DIODE0.3
pins: 1, 2

## TL431
designator ?
pins: 1 K, 2 A, 3 REF

## TL494
designator ?
pins: 1 IN+, 2 IN-, 3 FB, 4 DTC, 5 CT, 6 RT, 7 GND, 8 C1, 9 E1, 10 E2, 11 C2, 12 VCC, 13 OC, 14 REF, 15 2IN-, 16 2IN+

## TLP250
designator ?
pins: 1 NC, 2 A, 3 K, 4 NC, 5 VSS, 6 OUT, 7 OUT, 8 VCC

## TRANSE8
designator ?
pins: 1, 2, 3, 4, 5, 6

## VR
designator VR?
footprint VR3296
footprint VR3296-1
pins: 1, 2, W

## ZENER
designator ?
pins: 1 A, 2 K


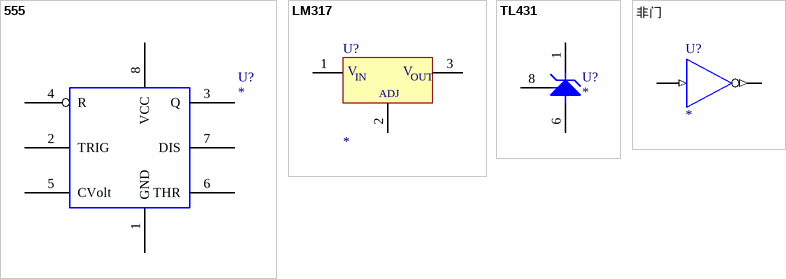
[diagram p64: symbols 555 to 非门]

## 555
designator U?
footprint DIP-8
pins: 1 GND, 2 TRIG, 3 Q, 4 R, 5 CVolt, 6 THR, 7 DIS, 8 VCC

## LM317
designator U?
3-Terminal Adjustable Positive Voltage Regulator
simulation model LM317 (SUBCKT)
pins: 1 VIN, 2 ADJ, 3 VOUT
text: V; IN; OUT

## TL431
designator U?
Adjustable Precision Shunt Regulator
footprint DIP-8
simulation model TL431 (SUBCKT)
pins: 1 K, 6 A, 8 R

## 非门
designator U?
Inverter
pins: 1 A (in), 2 Y (out)


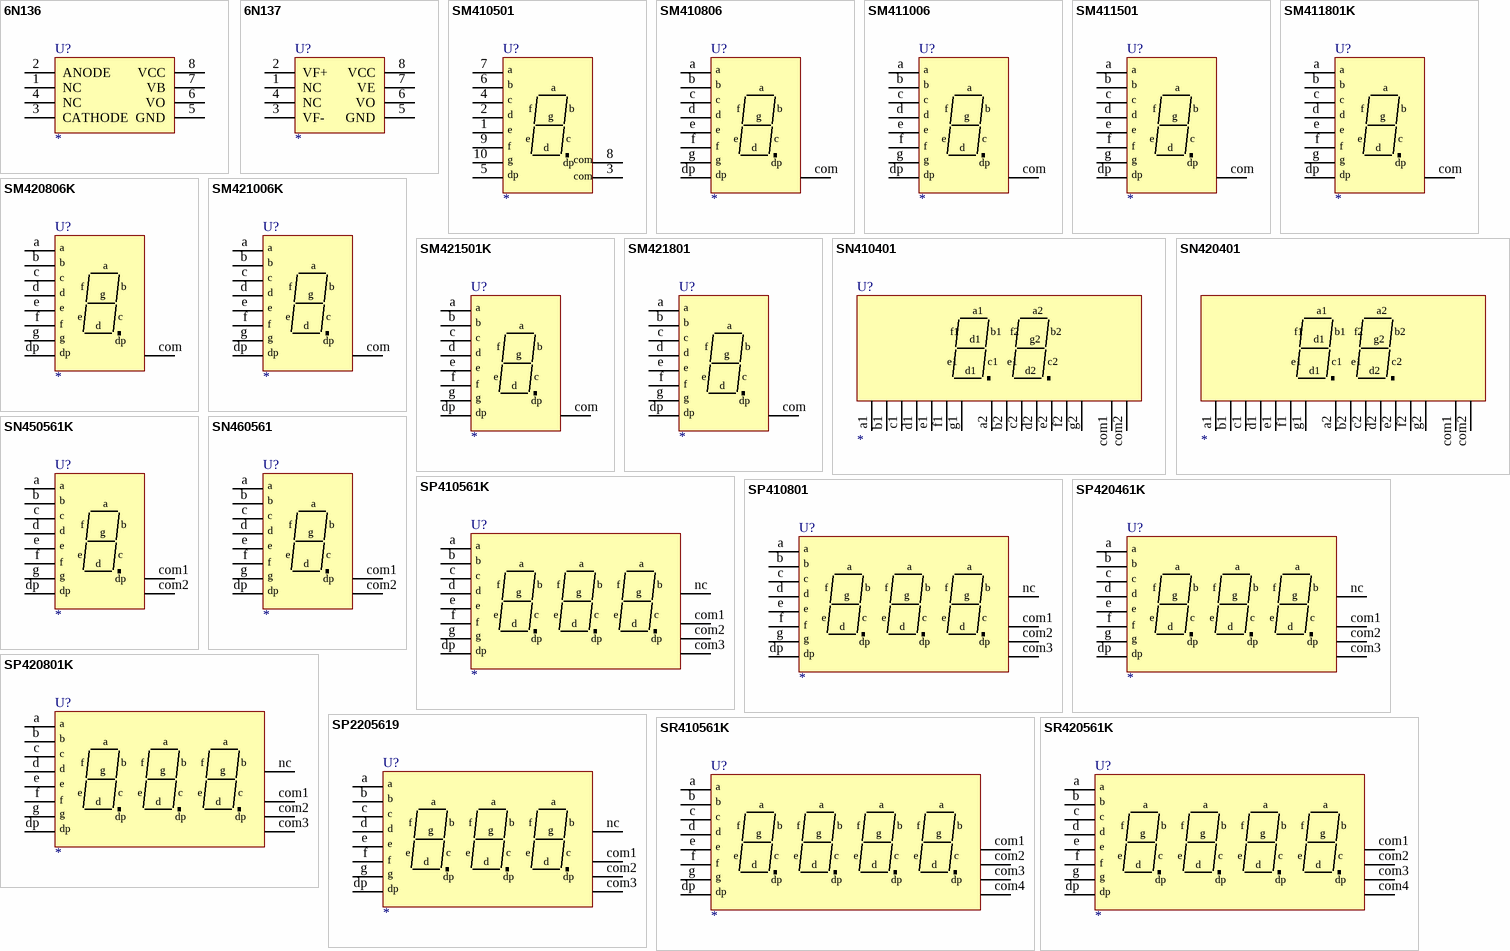
[diagram p65: symbols 6N136 to SR420561K]

## 6N136
designator U?
光耦
footprint DIP-8N
pins: 1 NC, 2 ANODE, 3 CATHODE, 4 NC (power), 5 GND, 6 VO, 7 VB, 8 VCC (power)

## 6N137
designator U?
光耦
footprint 6N137
footprint DIP-8N
pins: 1 NC, 2 VF+, 3 VF-, 4 NC (power), 5 GND, 6 VO, 7 VE, 8 VCC (power)

## SM410501
designator U?
pins: 1 e, 2 d, 3 com, 4 c, 5 dp, 6 b, 7 a, 8 com, 9 f, 10 g

## SM410806
designator U?
CP-SM410806
footprint SM410806
pins: a, b, c, com, d, dp, e, f, g

## SM411006
designator U?
CP-SM411006
footprint SM411006
pins: a, b, c, com, d, dp, e, f, g

## SM411501
designator U?
CP-SM411501
footprint SM411501
pins: a, b, c, com, d, dp, e, f, g

## SM411801K
designator U?
CP-SM411801K
footprint SM411801
pins: a, b, c, com, d, dp, e, f, g

## SM420806K
designator U?
CP-SM420806K
footprint SM420806
pins: a, b, c, com, d, dp, e, f, g

## SM421006K
designator U?
CP-SM421006K
footprint SM421006
pins: a, b, c, com, d, dp, e, f, g

## SM421501K
designator U?
CP-SM421501K
footprint SM421501
pins: a, b, c, com, d, dp, e, f, g

## SM421801
designator U?
CP-SM421801
footprint SM421801
pins: a, b, c, com, d, dp, e, f, g

## SN410401
designator U?
CP-SN410401
footprint SN410401
pins: a1, a2, b1, b2, c1, c2, com1, com2, d1, d2, e1, e2, f1, f2, g1, g2

## SN420401
designator ?
pins: a1, a2, b1, b2, c1, c2, com1, com2, d1, d2, e1, e2, f1, f2, g1, g2

## SN450561K
designator U?
CP-SN450561K
footprint SN450561
pins: a, b, c, com1, com2, d, dp, e, f, g

## SN460561
designator U?
CP-SN460561K
footprint SN460561
pins: a, b, c, com1, com2, d, dp, e, f, g

## SP410561K
designator U?
CP-SP410561K
footprint SP410561
pins: a, b, c, com1, com2, com3, d, dp, e, f, g, nc

## SP410801
designator U?
CP-SP410801
footprint SP410801
pins: a, b, c, com1, com2, com3, d, dp, e, f, g, nc

## SP420461K
designator U?
CP-SP420561K
footprint SP420561
pins: a, b, c, com1, com2, com3, d, dp, e, f, g, nc

## SP420801K
designator U?
CP-SP420801K
footprint SP420801
pins: a, b, c, com1, com2, com3, d, dp, e, f, g, nc

## SP2205619
designator U?
CP-SP2205619
footprint SP220561
pins: a, b, c, com1, com2, com3, d, dp, e, f, g, nc

## SR410561K
designator U?
CP-SR410561K
footprint SR410561
pins: a, b, c, com1, com2, com3, com4, d, dp, e, f, g

## SR420561K
designator U?
CP-SR420561K
footprint SR420561
pins: a, b, c, com1, com2, com3, com4, d, dp, e, f, g


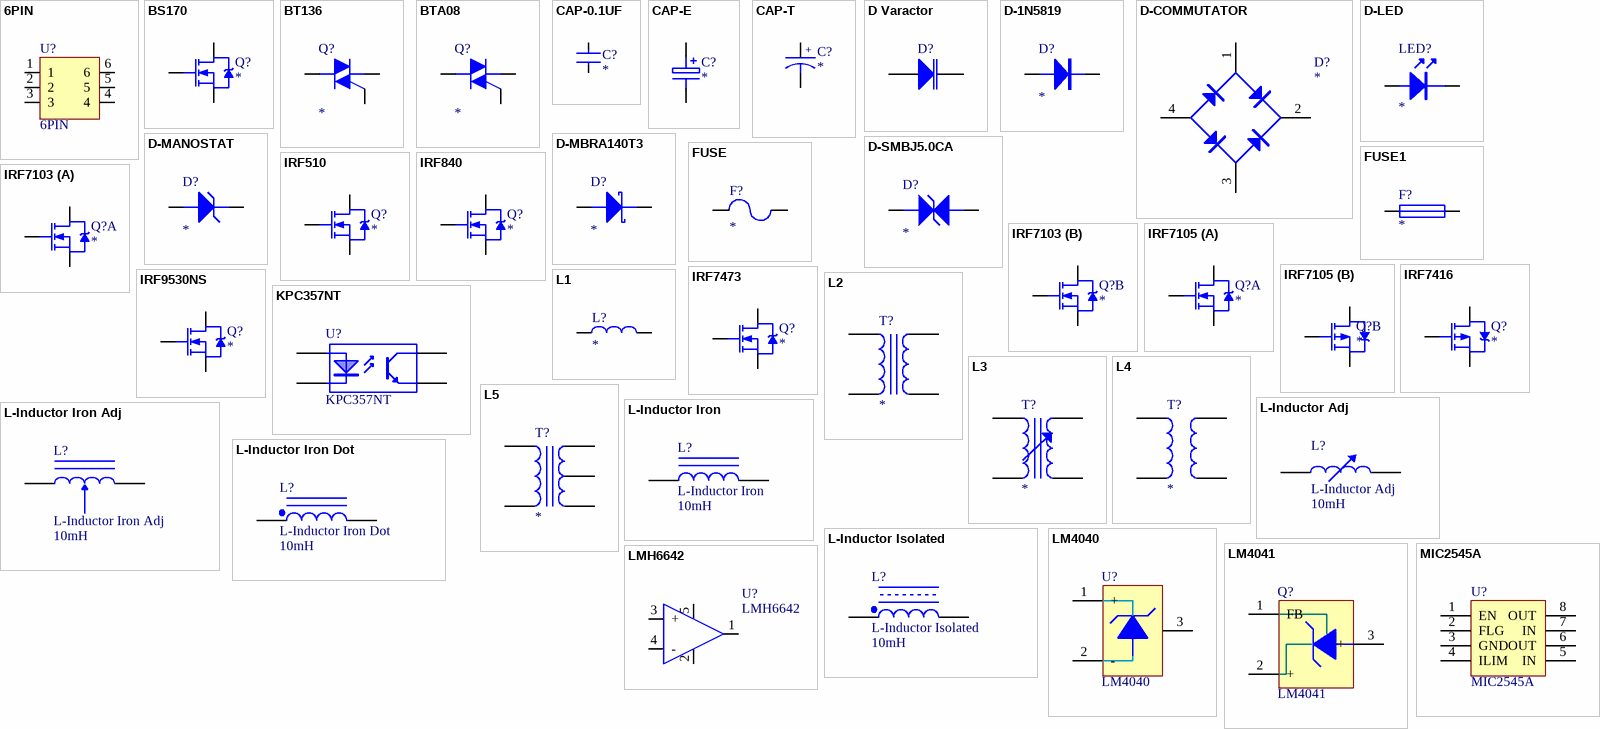
[diagram p66: symbols 6PIN to MIC2545A]

## 6PIN
designator U?
pins: 1, 2, 3, 4, 5, 6

## BS170
designator Q?
CQ-BS170
footprint TO-92
pins: 1 D, 2 G, 3 S

## BT136
designator Q?
CQ-BT136
footprint TO-220
pins: 1 T1, 2 T2, 3 G

## BTA08
designator Q?
CQ-BTA08
footprint TO-220
pins: 1 A1, 2 A2, 3 G

## CAP-0.1UF
designator C?
SMD-CAP
footprint 0603C
footprint 0805C
footprint 1206C
pins: 1, 2

## CAP-E
designator C?
电解电容
footprint RB.2/.4
footprint RB.2/.5
footprint RB.1/.3
footprint RB.3/.6
pins: 1, 2

## CAP-T
designator C?
钽电容
footprint 6032C
footprint 7343C
footprint 3528C
footprint 3216C
pins: 1, 2
text: +

## D Varactor
designator D?
Variable Capacitance Diode; Note: Pin 2 is not connected and not drawn.; Published: 8-Jun-2000; LatestRevisionDate: 17-Jul-2002; LatestRevisionNote: Re-released for DXP Platform.; DatasheetDocument: Jan-1998; PackageReference: SOT23A; Publisher: Altium Limited; Code_JEDEC: SOT23; ComponentLink1Description: Manufacturer Link; ComponentLink1URL: http://www.zetex.com/
footprint SOT23A (SOT-23; 3 Leads; Body 3.0 x 2.5 mm, inc. leads (LxW max))
simulation model BBY31 (Diode)
signal-integrity model D Varactor
pins: 1 K, 3 A

## D-1N5819
designator D?
Diode
footprint DO-41
footprint DO-35
pins: A 1, K 2

## D-COMMUTATOR
designator D?
commutator整流桥
pins: 1 AC, 2 V+, 3 AC, 4 V-

## D-LED
designator LED?
LED
footprint 0805D
footprint LED-3
footprint LED-5
pins: A 1, K 2

## D-MANOSTAT
designator D?
manostat diode
footprint DO-41
footprint DO-35
pins: A 1, K 2

## D-MBRA140T3
designator D?
MBRA140T3
footprint SMA
pins: A 1, K 2

## D-SMBJ5.0CA
designator D?
TVS
footprint SMB
footprint SMB-B
pins: A 1, K 2

## FUSE
designator F?
CR-1812-050A60V
footprint 1812R
pins: 1, 2

## FUSE1
designator F?
FUSE
pins: 1, 2

## IRF510
designator Q?
CQ-IRF510
footprint TO-220
pins: 1 G, 2 D, 3 S

## IRF840
designator Q?
CQ-IRF840
footprint TO-220
pins: 1 G, 2 D, 3 S

## IRF7103
designator Q?
CQ-IRF7103     SO-8N
footprint IRF7105
part A pins: D1, G1, S1
part B pins: D2, G2, S2

## IRF7105
designator Q?
CQ-IRF7105     SO-8N
footprint IRF7105
part A pins: D1, G1, S1
part B pins: D2, G2, S2

## IRF7416
designator Q?
CQ-IRF7416
footprint IRF7416
pins: D, G, S

## IRF7473
designator Q?
CQ-IRF7473
footprint IRF7473
pins: D, G, S

## IRF9530NS
designator Q?
CQ-IRF9530NS
footprint D2PAK
pins: 1 G, 2 D, 3 S

## KPC357NT
designator U?
Published: 24-Mar-1999; LatestRevisionDate: 17-Jul-2002; LatestRevisionNote: Re-released for DXP Platform.; Publisher: Altium Limited
footprint DIP-4 (DIP; 4 Leads; Row Spacing 7.62 mm; Pitch 2.54 mm)
pins: 1 A, 2 K, 3 E, 4 C

## L1
designator L?
电感
footprint SLF10145
footprint SLF12565
pins: 1, 2

## L2
designator T?
变压器
pins: 1, 2, 3, 4

## L3
designator T?
变压器
pins: 1, 2, 3, 4

## L4
designator T?
变压器
pins: 1, 2, 3, 4

## L5
designator T?
变压器
pins: 1, 2, 3, 4, 5

## L-Inductor Adj
designator L?  value 10mH
Adjustable Inductor; Set Position: 0.5; Published: 24-Mar-1999; LatestRevisionDate: 17-Jul-2002; LatestRevisionNote: Re-released for DXP Platform.; PackageReference: AXIAL-0.8; Publisher: Altium Limited
footprint AXIAL-0.8 (Adjustable Inductor; 2 Leads)
simulation model INDUCTOR (Inductor)
signal-integrity model Inductor Adj
pins: 1, 2

## L-Inductor Iron
designator L?  value 10mH
Magnetic-Core Inductor; Published: 24-Mar-1999; LatestRevisionDate: 17-Jul-2002; LatestRevisionNote: Re-released for DXP Platform.; PackageReference: AXIAL-0.9; Publisher: Altium Limited
footprint AXIAL-0.9 (Magnetic-Core Inductor; 2 Leads)
simulation model INDUCTOR (Inductor)
signal-integrity model Inductor Iron
pins: 1, 2

## L-Inductor Iron Adj
designator L?  value 10mH
Adjustable Magnetic-Core Inductor; Set Position: 0.5; Published: 24-Mar-1999; LatestRevisionDate: 17-Jul-2002; LatestRevisionNote: Re-released for DXP Platform.; PackageReference: AXIAL-1.0; Publisher: Altium Limited
footprint AXIAL-1.0 (Adjustable Magnetic-Core Inductor; 2 Leads)
simulation model INDUCTOR (Inductor)
signal-integrity model Inductor Iron Adj
pins: 1, 2

## L-Inductor Iron Dot
designator L?  value 10mH
Magnetic-Core Inductor with Winding Polarity Marking; Published: 24-Mar-1999; LatestRevisionDate: 17-Jul-2002; LatestRevisionNote: Re-released for DXP Platform.; PackageReference: DIODE_SMC; Publisher: Altium Limited
footprint DIODE_SMC (Magnetic-Core Inductor with Winding Polarity Marking; 2 Leads)
signal-integrity model Inductor Iron Dot
pins: 1, 2

## L-Inductor Isolated
designator L?  value 10mH
Isolated Inductor; PackageDocument: 1988; Published: 24-Mar-1999; LatestRevisionDate: 17-Jul-2002; LatestRevisionNote: Re-released for DXP Platform.; PackageReference: 425; Publisher: Altium Limited
footprint 425 (SOD-123; 2 Leads; Body 2.7 x 1.6 mm, (LxW))
signal-integrity model Inductor Isolated
pins: 1, 2

## LM4040
designator U?
Shunt  Voltage  Reference
pins: 1 +, 2 -, 3

## LM4041
designator Q?
Shunt  Voltage  Reference
footprint SOT-23 (Footprint not found)
pins: 1 FB, 2 +, 3 +

## LMH6642
designator U?
Amplifier IC
pins: 1 OUT, 2 V-, 3 +, 4 -, 5 V+

## MIC2545A
designator U?
IC; Set Position: 0.5; Published: 8-Jun-2000; LatestRevisionDate: 17-Jul-2002; LatestRevisionNote: Re-released for DXP Platform.; PackageReference: AXIAL-0.6; Publisher: Altium Limited
footprint AXIAL-0.6 (Variable Resistor; 2 Leads)
simulation model VRES (Variable Resistor)
signal-integrity model Res Adj
pins: 1 EN, 2 FLG, 3 GND, 4 ILIM, 5 IN, 6 OUT, 7 IN, 8 OUT

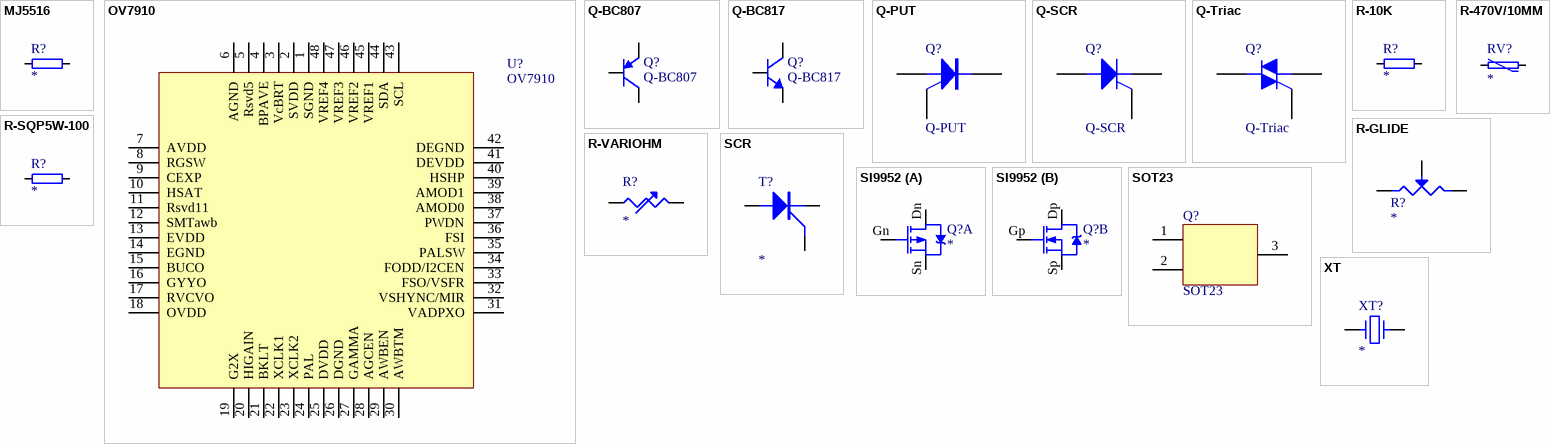
[diagram p67: symbols MJ5516 to XT]

## MJ5516
designator R?
CR-MJ5516
footprint MJ5515
pins: 1, 2

## OV7910
designator U?
Video  IC
pins: 1 SGND, 2 SVDD, 3 VcBRT, 4 BPAVE, 5 Rsvd5, 6 AGND, 7 AVDD, 8 RGSW, 9 CEXP, 10 HSAT, 11 Rsvd11, 12 SMTawb, 13 EVDD, 14 EGND, 15 BUCO, 16 GYYO, 17 RVCVO, 18 OVDD, 19 G2X, 20 HIGAIN, 21 BKLT, 22 XCLK1, 23 XCLK2, 24 PAL, 25 DVDD, 26 DGND, 27 GAMMA, 28 AGCEN, 29 AWBEN, 30 AWBTM, 31 VADPXO, 32 VSHYNC/MIR, 33 FSO/VSFR, 34 FODD/I2CEN, 35 PALSW, 36 FSI, 37 PWDN, 38 AMOD0, 39 AMOD1, 40 HSHP, 41 DEVDD, 42 DEGND, 43 SCL, 44 SDA, 45 VREF1, 46 VREF2, 47 VREF3, 48 VREF4

## Q-BC807
designator Q?
PNP General Purpose Amplifier; Published: 8-Jun-2000; LatestRevisionDate: 15-Jan-2003; LatestRevisionNote: PCB Footprint 'BCY-W3/D4.7' replaced; DatasheetDocument: 1997; PackageDocument: Sep-1998; PackageReference: TO-92A; Publisher: Altium Limited; Code_JEDEC: TO-92A; ComponentLink1Description: Manufacturer Link; ComponentLink1URL: http://www.fairchildsemi.com/; ComponentLink2Description: Datasheet; ComponentLink2URL: http://www.fairchildsemi.com/ds/2N%2F2N3906.pdf
footprint SOT-23Q
simulation model 2N3906 (PNP)
signal-integrity model 2N3906
pins: B, C, E

## Q-BC817
designator Q?
NPN General Purpose Amplifier; Published: 8-Jun-2000; LatestRevisionDate: 15-Jan-2003; LatestRevisionNote: PCB Footprint 'BCY-W3/D4.7' replaced; DatasheetDocument: 1997; PackageDocument: Sep-1998; PackageReference: TO-92A; Publisher: Altium Limited; Code_JEDEC: TO-92A; ComponentLink1Description: Manufacturer Link; ComponentLink1URL: http://www.fairchildsemi.com/; ComponentLink2Description: Datasheet; ComponentLink2URL: http://www.fairchildsemi.com/ds/2N%2F2N3904.pdf
footprint TO-92A (TO, Flat Index; 3 In-Line, Axial Leads; Body Dia. 4.5mm; Leads 0.51 x 0.48 mm (max))
simulation model 2N3904 (NPN)
signal-integrity model 2N3904
pins: 1 E, 2 B, 3 C

## Q-PUT
designator Q?
Programmable Unijunction Transistor; Published: 8-Jun-2000; LatestRevisionDate: 17-Jul-2002; LatestRevisionNote: Re-released for DXP Platform.; PackageReference: TO-52; Publisher: Altium Limited
footprint TO-52 (Can; 3 Leads; Pin Circle Dia. 2.54 mm)
simulation model PUT (Spice Subcircuit)
pins: 1 A, 2 G, 3 K

## Q-SCR
designator Q?
Silicon Controlled Rectifier; Published: 8-Jun-2000; LatestRevisionDate: 17-Jul-2002; LatestRevisionNote: Re-released for DXP Platform.; PackageReference: TO-220-AB; Publisher: Altium Limited; Code_JEDEC: TO-220-AB
footprint TO-220-AB (TO, Thru-Hole, Vertical, Heatsink Mounted; 3 In-Line Leads; Pitch 2.54 mm)
simulation model SCR (Spice Subcircuit)
pins: 1 A, 2 G, 3 K

## Q-Triac
designator Q?
Silicon Bidirectional Triode Thyristor; Note: Pin 2 is electrically connected to Pin 4 (TAB); Published: 29-Sep-2000; LatestRevisionDate: 17-Jul-2002; LatestRevisionNote: Re-released for DXP Platform.; DatasheetDocument: 1999; PackageReference: 369-03; Publisher: Altium Limited; Code_JEDEC: TO-251-AA; ComponentLink1Description: Manufacturer Link; ComponentLink1URL: http://www.motorola.com/
footprint 369-03 (TO, Thru-Hole, Vertical, Heatsink Mounted; 3 In-Line Leads; Pitch 2.28 mm)
simulation model MAC15A8 (Spice Subcircuit)
pins: 1 M1, 2 M2, 3 G

## R-10K
designator R?
resistor
footprint 0805R
footprint 0603R
footprint 1206R
pins: 1, 2

## R-470V/10MM
designator RV?
C-471KD10
footprint 470V/10MM
pins: 1, 2

## R-GLIDE
designator R?
pins: 1, 2, 3 W

## R-SQP5W-100
designator R?
CR-SQP5W-101J
footprint R-SQP5W
pins: 1, 2

## R-VARIOHM
designator R?
pins: 1, 2

## SCR
designator T?
SCR
pins: 1 A, 2 K, 3 G

## SI9952
designator Q?
CQ-SI9952
footprint SI9952
part A pins: Dn, Gn, Sn
part B pins: Dp, Gp, Sp

## SOT23
designator Q?
pins: 1, 2, 3

## XT
designator XT?
晶振
footprint HC-49S
pins: 1, 2


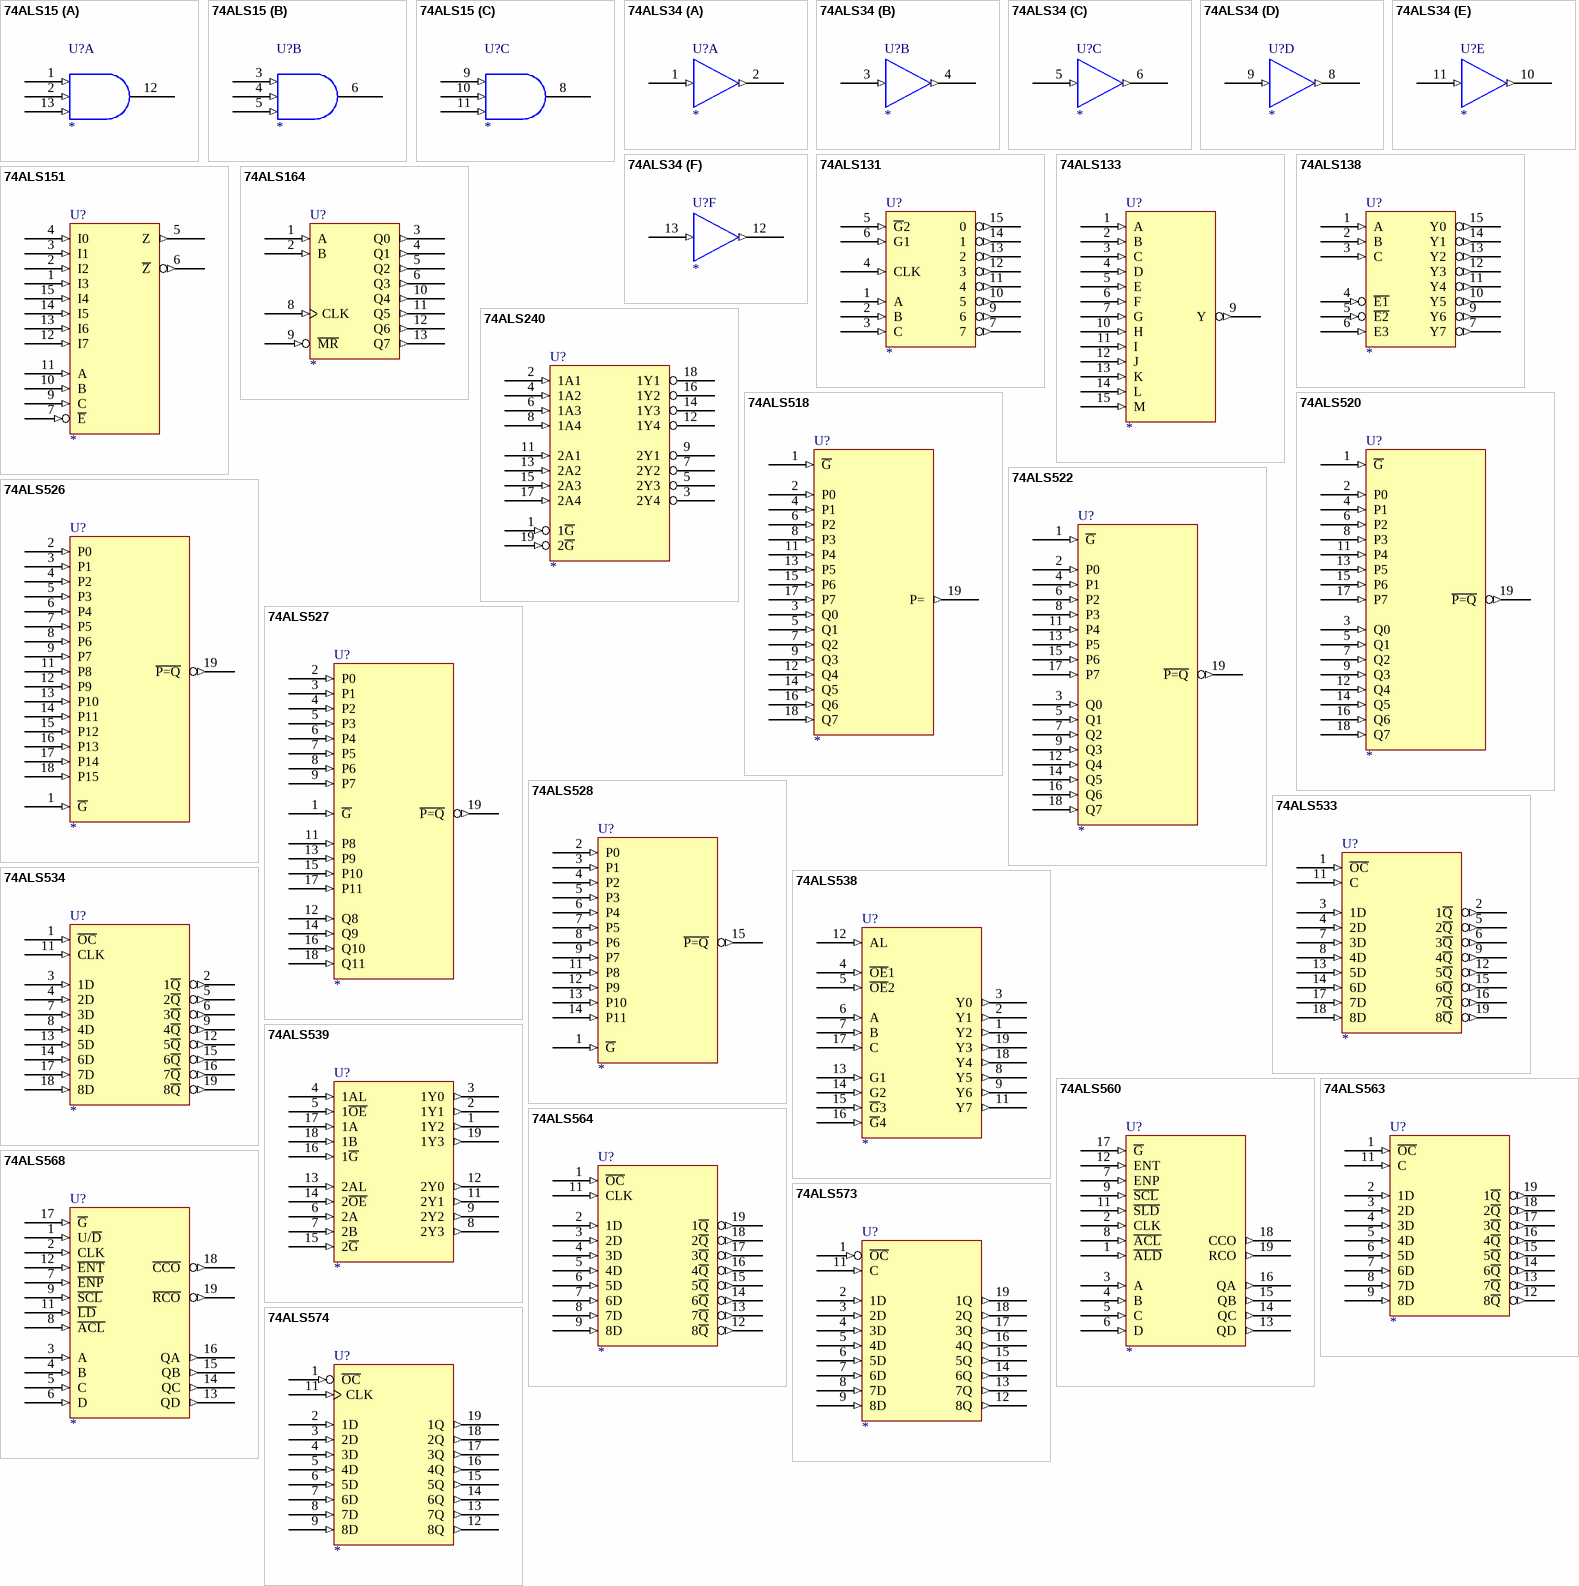
[diagram p68: symbols 74ALS15 to 74ALS574]

## 74ALS15
designator U?
footprint DIP-14
part A pins: 1 (in), 2 (in), 7 GND (power) hidden to GND, 12 (oc), 13 (in), 14 VCC (power) hidden to VCC
part B pins: 3 (in), 4 (in), 5 (in), 6 (oc), 7 GND (power) hidden to GND, 14 VCC (power) hidden to VCC
part C pins: 7 GND (power) hidden to GND, 8 (oc), 9 (in), 10 (in), 11 (in), 14 VCC (power) hidden to VCC

## 74ALS34
designator U?
footprint DIP-14
part A pins: 1 (in), 2 (out), 7 GND (power) hidden to GND, 14 VCC (power) hidden to VCC
part B pins: 3 (in), 4 (out), 7 GND (power) hidden to GND, 14 VCC (power) hidden to VCC
part C pins: 5 (in), 6 (out), 7 GND (power) hidden to GND, 14 VCC (power) hidden to VCC
part D pins: 7 GND (power) hidden to GND, 8 (out), 9 (in), 14 VCC (power) hidden to VCC
part E pins: 7 GND (power) hidden to GND, 10 (out), 11 (in), 14 VCC (power) hidden to VCC
part F pins: 7 GND (power) hidden to GND, 12 (out), 13 (in), 14 VCC (power) hidden to VCC

## 74ALS131
designator U?
footprint DIP-16
pins: 1 A (in), 2 B (in), 3 C (in), 4 CLK (in), 5 ~{G}2 (in), 6 G1 (in), 7 (out), 8 GND (power) hidden to GND, 9 6 (out), 10 5 (out), 11 4 (out), 12 3 (out), 13 2 (out), 14 1 (out), 15 0 (out), 16 VCC (power) hidden to VCC

## 74ALS133
designator U?
footprint DIP-16
pins: 1 A (in), 2 B (in), 3 C (in), 4 D (in), 5 E (in), 6 F (in), 7 G (in), 8 GND (power) hidden to GND, 9 Y (out), 10 H (in), 11 I (in), 12 J (in), 13 K (in), 14 L (in), 15 M (in), 16 VCC (power) hidden to VCC

## 74ALS138
designator U?
footprint DIP-16
pins: 1 A (in), 2 B (in), 3 C (in), 4 ~{E1} (in), 5 ~{E2} (in), 6 E3 (in), 7 Y7 (out), 8 GND (power) hidden to GND, 9 Y6 (out), 10 Y5 (out), 11 Y4 (out), 12 Y3 (out), 13 Y2 (out), 14 Y1 (out), 15 Y0 (out), 16 VCC (power) hidden to VCC

## 74ALS151
designator U?
footprint DIP-16
pins: 1 I3 (in), 2 I2 (in), 3 I1 (in), 4 I0 (in), 5 Z (out), 6 ~{Z} (out), 7 ~{E} (in), 8 GND (power) hidden to GND, 9 C (in), 10 B (in), 11 A (in), 12 I7 (in), 13 I6 (in), 14 I5 (in), 15 I4 (in), 16 VCC (power) hidden to VCC

## 74ALS164
designator U?
footprint DIP-14
pins: 1 A (in), 2 B (in), 3 Q0 (out), 4 Q1 (out), 5 Q2 (out), 6 Q3 (out), 7 GND (power) hidden to GND, 8 CLK (in), 9 ~{MR} (in), 10 Q4 (out), 11 Q5 (out), 12 Q6 (out), 13 Q7 (out), 14 VCC (power) hidden to VCC

## 74ALS240
designator U?
footprint DIP-20
pins: 1 1~{G} (in), 2 1A1 (in), 3 2Y4 (hiz), 4 1A2 (in), 5 2Y3 (hiz), 6 1A3 (in), 7 2Y2 (hiz), 8 1A4 (in), 9 2Y1 (hiz), 10 GND (power) hidden to GND, 11 2A1 (in), 12 1Y4 (hiz), 13 2A2 (in), 14 1Y3 (hiz), 15 2A3 (in), 16 1Y2 (hiz), 17 2A4 (in), 18 1Y1 (hiz), 19 2~{G} (in), 20 VCC (power) hidden to VCC

## 74ALS518
designator U?
footprint DIP-20
pins: 1 ~{G} (in), 2 P0 (in), 3 Q0 (in), 4 P1 (in), 5 Q1 (in), 6 P2 (in), 7 Q2 (in), 8 P3 (in), 9 Q3 (in), 10 GND (power) hidden to GND, 11 P4 (in), 12 Q4 (in), 13 P5 (in), 14 Q5 (in), 15 P6 (in), 16 Q6 (in), 17 P7 (in), 18 Q7 (in), 19 P= (out), 20 VCC (power) hidden to VCC

## 74ALS520
designator U?
footprint DIP-20
pins: 1 ~{G} (in), 2 P0 (in), 3 Q0 (in), 4 P1 (in), 5 Q1 (in), 6 P2 (in), 7 Q2 (in), 8 P3 (in), 9 Q3 (in), 10 GND (power) hidden to GND, 11 P4 (in), 12 Q4 (in), 13 P5 (in), 14 Q5 (in), 15 P6 (in), 16 Q6 (in), 17 P7 (in), 18 Q7 (in), 19 ~{P=Q} (out), 20 VCC (power) hidden to VCC

## 74ALS522
designator U?
footprint DIP-20
pins: 1 ~{G} (in), 2 P0 (in), 3 Q0 (in), 4 P1 (in), 5 Q1 (in), 6 P2 (in), 7 Q2 (in), 8 P3 (in), 9 Q3 (in), 10 GND (power) hidden to GND, 11 P4 (in), 12 Q4 (in), 13 P5 (in), 14 Q5 (in), 15 P6 (in), 16 Q6 (in), 17 P7 (in), 18 Q7 (in), 19 ~{P=Q} (out), 20 VCC (power) hidden to VCC

## 74ALS526
designator U?
footprint DIP-20
pins: 1 ~{G} (in), 2 P0 (in), 3 P1 (in), 4 P2 (in), 5 P3 (in), 6 P4 (in), 7 P5 (in), 8 P6 (in), 9 P7 (in), 10 GND (power) hidden to GND, 11 P8 (in), 12 P9 (in), 13 P10 (in), 14 P11 (in), 15 P12 (in), 16 P13 (in), 17 P14 (in), 18 P15 (in), 19 ~{P=Q} (out), 20 VCC (power) hidden to VCC

## 74ALS527
designator U?
footprint DIP-20
pins: 1 ~{G} (in), 2 P0 (in), 3 P1 (in), 4 P2 (in), 5 P3 (in), 6 P4 (in), 7 P5 (in), 8 P6 (in), 9 P7 (in), 10 GND (power) hidden to GND, 11 P8 (in), 12 Q8 (in), 13 P9 (in), 14 Q9 (in), 15 P10 (in), 16 Q10 (in), 17 P11 (in), 18 Q11 (in), 19 ~{P=Q} (out), 20 VCC (power) hidden to VCC

## 74ALS528
designator U?
footprint DIP-16
pins: 1 ~{G} (in), 2 P0 (in), 3 P1 (in), 4 P2 (in), 5 P3 (in), 6 P4 (in), 7 P5 (in), 8 P6 (in), 8 GND (power) hidden to GND, 9 P7 (in), 11 P8 (in), 12 P9 (in), 13 P10 (in), 14 P11 (in), 15 ~{P=Q} (out), 16 VCC (power) hidden to VCC

## 74ALS533
designator U?
footprint DIP-20
pins: 1 ~{OC} (in), 2 1~{Q} (out), 3 1D (in), 4 2D (in), 5 2~{Q} (out), 6 3~{Q} (out), 7 3D (in), 8 4D (in), 9 4~{Q} (out), 10 GND (power) hidden to GND, 11 C (in), 12 5~{Q} (out), 13 5D (in), 14 6D (in), 15 6~{Q} (out), 16 7~{Q} (out), 17 7D (in), 18 8D (in), 19 8~{Q} (out), 20 VCC (power) hidden to VCC

## 74ALS534
designator U?
footprint DIP-20
pins: 1 ~{OC} (in), 2 1~{Q} (out), 3 1D (in), 4 2D (in), 5 2~{Q} (out), 6 3~{Q} (out), 7 3D (in), 8 4D (in), 9 4~{Q} (out), 10 GND (power) hidden to GND, 11 CLK (in), 12 5~{Q} (out), 13 5D (in), 14 6D (in), 15 6~{Q} (out), 16 7~{Q} (out), 17 7D (in), 18 8D (in), 19 8~{Q} (out), 20 VCC (power) hidden to VCC

## 74ALS538
designator U?
footprint DIP-20
pins: 1 Y2 (out), 2 Y1 (out), 3 Y0 (out), 4 ~{OE}1 (in), 5 ~{OE}2 (in), 6 A (in), 7 B (in), 8 Y5 (out), 9 Y6 (out), 10 GND (power) hidden to GND, 11 Y7 (out), 12 AL (in), 13 G1 (in), 14 G2 (in), 15 ~{G}3 (in), 16 ~{G}4 (in), 17 C (in), 18 Y4 (out), 19 Y3 (out), 20 VCC (power) hidden to VCC

## 74ALS539
designator U?
footprint DIP-20
pins: 1 1Y2 (out), 2 1Y1 (out), 3 1Y0 (out), 4 1AL (in), 5 1~{OE} (in), 6 2A (in), 7 2B (in), 8 2Y3 (out), 9 2Y2 (out), 10 GND (power) hidden to GND, 11 2Y1 (out), 12 2Y0 (out), 13 2AL (in), 14 2~{OE} (in), 15 2~{G} (in), 16 1~{G} (in), 17 1A (in), 18 1B (in), 19 1Y3 (out), 20 VCC (power) hidden to VCC

## 74ALS560
designator U?
footprint DIP-20
pins: 1 ~{ALD} (in), 2 CLK (in), 3 A (in), 4 B (in), 5 C (in), 6 D (in), 7 ENP (in), 8 ~{ACL} (in), 9 ~{SCL} (in), 10 GND (power) hidden to GND, 11 ~{SLD} (in), 12 ENT (in), 13 QD (out), 14 QC (out), 15 QB (out), 16 QA (out), 17 ~{G} (in), 18 CCO (out), 19 RCO (out), 20 GND (power) hidden to GND

## 74ALS563
designator U?
footprint DIP-20
pins: 1 ~{OC} (in), 2 1D (in), 3 2D (in), 4 3D (in), 5 4D (in), 6 5D (in), 7 6D (in), 8 7D (in), 9 8D (in), 10 GND (power) hidden to GND, 11 C (in), 12 8~{Q} (out), 13 7~{Q} (out), 14 6~{Q} (out), 15 5~{Q} (out), 16 4~{Q} (out), 17 3~{Q} (out), 18 2~{Q} (out), 19 1~{Q} (out), 20 VCC (power) hidden to VCC

## 74ALS564
designator U?
footprint DIP-20
pins: 1 ~{OC} (in), 2 1D (in), 3 2D (in), 4 3D (in), 5 4D (in), 6 5D (in), 7 6D (in), 8 7D (in), 9 8D (in), 10 GND (power) hidden to GND, 11 CLK (in), 12 8~{Q} (out), 13 7~{Q} (out), 14 6~{Q} (out), 15 5~{Q} (out), 16 4~{Q} (out), 17 3~{Q} (out), 18 2~{Q} (out), 19 1~{Q} (out), 20 VCC (power) hidden to VCC

## 74ALS568
designator U?
footprint DIP-20
pins: 1 U/~{D} (in), 2 CLK (in), 3 A (in), 4 B (in), 5 C (in), 6 D (in), 7 ~{ENP} (in), 8 ~{ACL} (in), 9 ~{SCL} (in), 10 GND (power) hidden to GND, 11 ~{LD} (in), 12 ~{ENT} (in), 13 QD (out), 14 QC (out), 15 QB (out), 16 QA (out), 17 ~{G} (in), 18 ~{CCO} (out), 19 ~{RCO} (out), 20 VCC (power) hidden to VCC

## 74ALS573
designator U?
footprint DIP-20
pins: 1 ~{OC} (in), 2 1D (in), 3 2D (in), 4 3D (in), 5 4D (in), 6 5D (in), 7 6D (in), 8 7D (in), 9 8D (in), 10 GND (power) hidden to GND, 11 C (in), 12 8Q (out), 13 7Q (out), 14 6Q (out), 15 5Q (out), 16 4Q (out), 17 3Q (out), 18 2Q (out), 19 1Q (out), 20 VCC (power) hidden to VCC

## 74ALS574
designator U?
footprint DIP-20
pins: 1 ~{OC} (in), 2 1D (in), 3 2D (in), 4 3D (in), 5 4D (in), 6 5D (in), 7 6D (in), 8 7D (in), 9 8D (in), 10 GND (power) hidden to GND, 11 CLK (in), 12 8Q (out), 13 7Q (out), 14 6Q (out), 15 5Q (out), 16 4Q (out), 17 3Q (out), 18 2Q (out), 19 1Q (out), 20 VCC (power) hidden to VCC

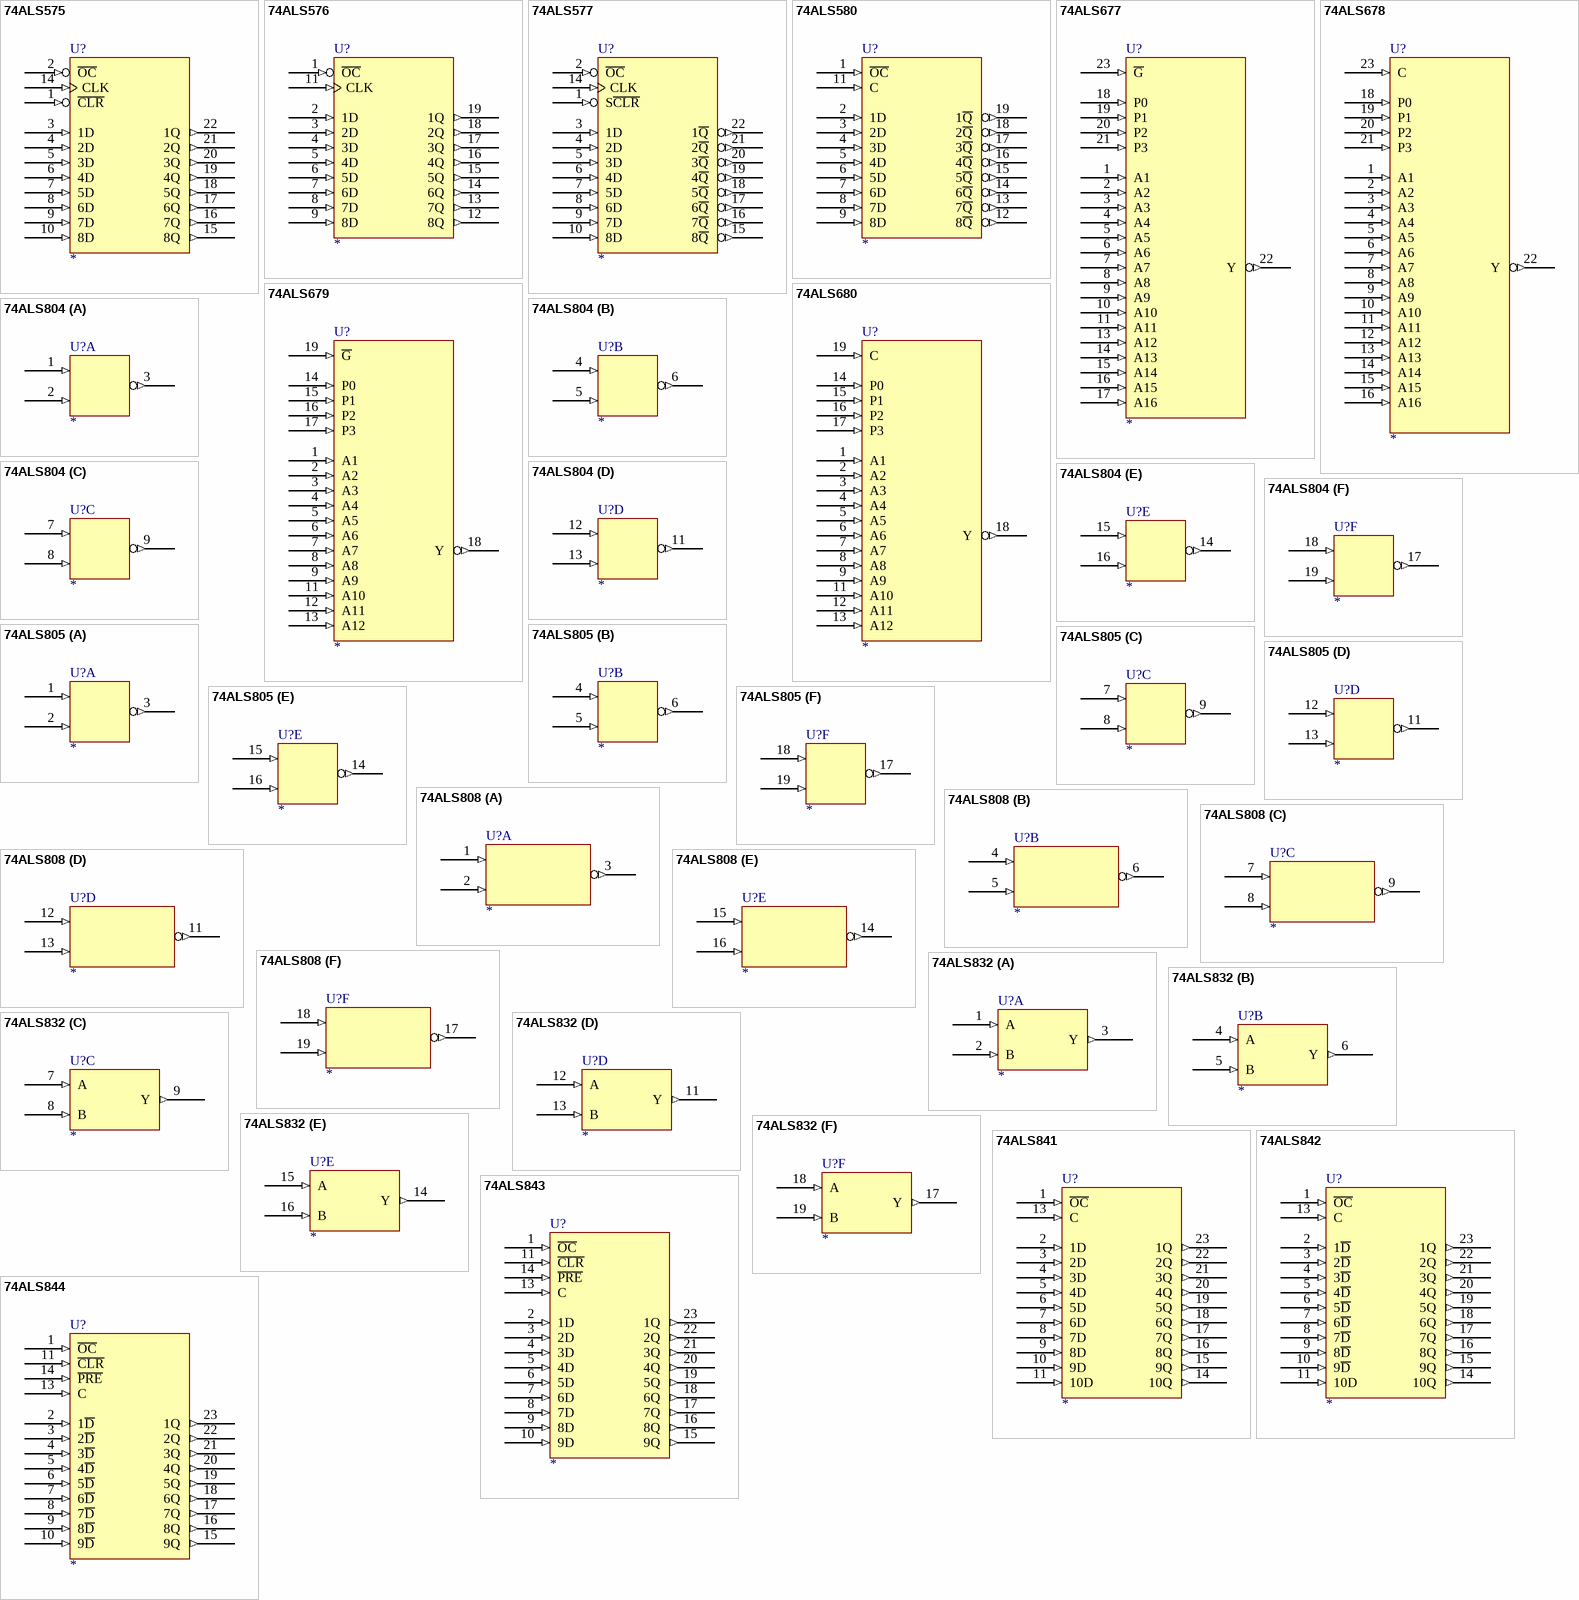
[diagram p69: symbols 74ALS575 to 74ALS844]

## 74ALS575
designator U?
footprint DIP-24
pins: 1 ~{CLR} (in), 2 ~{OC} (in), 3 1D (in), 4 2D (in), 5 3D (in), 6 4D (in), 7 5D (in), 8 6D (in), 9 7D (in), 10 8D (in), 12 GND (power) hidden to GND, 14 CLK (in), 15 8Q (out), 16 7Q (out), 17 6Q (out), 18 5Q (out), 19 4Q (out), 20 3Q (out), 21 2Q (out), 22 1Q (out), 24 VCC (power) hidden to VCC

## 74ALS576
designator U?
footprint DIP-20
pins: 1 ~{OC} (in), 2 1D (in), 3 2D (in), 4 3D (in), 5 4D (in), 6 5D (in), 7 6D (in), 8 7D (in), 9 8D (in), 10 GND (power) hidden to GND, 11 CLK (in), 12 8Q (out), 13 7Q (out), 14 6Q (out), 15 5Q (out), 16 4Q (out), 17 3Q (out), 18 2Q (out), 19 1Q (out), 20 VCC (power) hidden to VCC

## 74ALS577
designator U?
footprint DIP-24
pins: 1 S~{CLR} (in), 2 ~{OC} (in), 3 1D (in), 4 2D (in), 5 3D (in), 6 4D (in), 7 5D (in), 8 6D (in), 9 7D (in), 10 8D (in), 12 GND (power) hidden to GND, 14 CLK (in), 15 8~{Q} (out), 16 7~{Q} (out), 17 6~{Q} (out), 18 5~{Q} (out), 19 4~{Q} (out), 20 3~{Q} (out), 21 2~{Q} (out), 22 1~{Q} (out), 24 VCC (power) hidden to VCC

## 74ALS580
designator U?
footprint DIP-20
pins: 1 ~{OC} (in), 2 1D (in), 3 2D (in), 4 3D (in), 5 4D (in), 6 5D (in), 7 6D (in), 8 7D (in), 9 8D (in), 10 GND (power) hidden to GND, 11 C (in), 12 8~{Q} (out), 13 7~{Q} (out), 14 6~{Q} (out), 15 5~{Q} (out), 16 4~{Q} (out), 17 3~{Q} (out), 18 2~{Q} (out), 19 1~{Q} (out), 20 VCC (power) hidden to VCC

## 74ALS677
designator U?
footprint DIP-24
pins: 1 A1 (in), 2 A2 (in), 3 A3 (in), 4 A4 (in), 5 A5 (in), 6 A6 (in), 7 A7 (in), 8 A8 (in), 9 A9 (in), 10 A10 (in), 11 A11 (in), 12 GND (power) hidden to GND, 13 A12 (in), 14 A13 (in), 15 A14 (in), 16 A15 (in), 17 A16 (in), 18 P0 (in), 19 P1 (in), 20 P2 (in), 21 P3 (in), 22 Y (out), 23 ~{G} (in), 24 VCC (power) hidden to VCC

## 74ALS678
designator U?
footprint DIP-24
pins: 1 A1 (in), 2 A2 (in), 3 A3 (in), 4 A4 (in), 5 A5 (in), 6 A6 (in), 7 A7 (in), 8 A8 (in), 9 A9 (in), 10 A10 (in), 11 A11 (in), 12 A12 (in), 12 GND (power) hidden to GND, 13 A13 (in), 14 A14 (in), 15 A15 (in), 16 A16 (in), 18 P0 (in), 19 P1 (in), 20 P2 (in), 21 P3 (in), 22 Y (out), 23 C (in), 24 VCC (power) hidden to VCC

## 74ALS679
designator U?
footprint DIP-20
pins: 1 A1 (in), 2 A2 (in), 3 A3 (in), 4 A4 (in), 5 A5 (in), 6 A6 (in), 7 A7 (in), 8 A8 (in), 9 A9 (in), 10 GND (power) hidden to GND, 11 A10 (in), 12 A11 (in), 13 A12 (in), 14 P0 (in), 15 P1 (in), 16 P2 (in), 17 P3 (in), 18 Y (out), 19 ~{G} (in), 20 VCC (power) hidden to VCC

## 74ALS680
designator U?
footprint DIP-20
pins: 1 A1 (in), 2 A2 (in), 3 A3 (in), 4 A4 (in), 5 A5 (in), 6 A6 (in), 7 A7 (in), 8 A8 (in), 9 A9 (in), 10 GND (power) hidden to GND, 11 A10 (in), 12 A11 (in), 13 A12 (in), 14 P0 (in), 15 P1 (in), 16 P2 (in), 17 P3 (in), 18 Y (out), 19 C (in), 20 VCC (power) hidden to VCC

## 74ALS804
designator U?
footprint DIP-20
part A pins: 1 (in), 2 (in), 3 (out), 10 GND (power) hidden to GND, 20 VCC (power) hidden to VCC
part B pins: 4 (in), 5 (in), 6 (out), 10 GND (power) hidden to GND, 20 VCC (power) hidden to VCC
part C pins: 7 (in), 8 (in), 9 (out), 10 GND (power) hidden to GND, 20 VCC (power) hidden to VCC
part D pins: 10 GND (power) hidden to GND, 11 (out), 12 (in), 13 (in), 20 VCC (power) hidden to VCC
part E pins: 10 GND (power) hidden to GND, 14 (out), 15 (in), 16 (in), 20 VCC (power) hidden to VCC
part F pins: 10 GND (power) hidden to GND, 17 (out), 18 (in), 19 (in), 20 VCC (power) hidden to VCC

## 74ALS805
designator U?
footprint DIP-20
part A pins: 1 (in), 2 (in), 3 (out), 10 GND (power) hidden to GND, 20 VCC (power) hidden to VCC
part B pins: 4 (in), 5 (in), 6 (out), 10 GND (power) hidden to GND, 20 VCC (power) hidden to VCC
part C pins: 7 (in), 8 (in), 9 (out), 10 GND (power) hidden to GND, 20 VCC (power) hidden to VCC
part D pins: 10 GND (power) hidden to GND, 11 (out), 12 (in), 13 (in), 20 VCC (power) hidden to VCC
part E pins: 10 GND (power) hidden to GND, 14 (out), 15 (in), 16 (in), 20 VCC (power) hidden to VCC
part F pins: 10 GND (power) hidden to GND, 17 (out), 18 (in), 19 (in), 20 VCC (power) hidden to VCC

## 74ALS808
designator U?
footprint DIP-20
part A pins: 1 (in), 2 (in), 3 (out), 10 GND (power) hidden to GND, 20 VCC (power) hidden to VCC
part B pins: 4 (in), 5 (in), 6 (out), 10 GND (power) hidden to GND, 20 VCC (power) hidden to VCC
part C pins: 7 (in), 8 (in), 9 (out), 10 GND (power) hidden to GND, 20 VCC (power) hidden to VCC
part D pins: 10 GND (power) hidden to GND, 11 (out), 12 (in), 13 (in), 20 VCC (power) hidden to VCC
part E pins: 10 GND (power) hidden to GND, 14 (out), 15 (in), 16 (in), 20 VCC (power) hidden to VCC
part F pins: 10 GND (power) hidden to GND, 17 (out), 18 (in), 19 (in), 20 VCC (power) hidden to VCC

## 74ALS832
designator U?
footprint DIP-20
part A pins: 1 A (in), 2 B (in), 3 Y (out), 10 GND (power) hidden to GND, 20 VCC (power) hidden to VCC
part B pins: 4 A (in), 5 B (in), 6 Y (out), 10 GND (power) hidden to GND, 20 VCC (power) hidden to VCC
part C pins: 7 A (in), 8 B (in), 9 Y (out), 10 GND (power) hidden to GND, 20 VCC (power) hidden to VCC
part D pins: 10 GND (power) hidden to GND, 11 Y (out), 12 A (in), 13 B (in), 20 VCC (power) hidden to VCC
part E pins: 10 GND (power) hidden to GND, 14 Y (out), 15 A (in), 16 B (in), 20 VCC (power) hidden to VCC
part F pins: 10 GND (power) hidden to GND, 17 Y (out), 18 A (in), 19 B (in), 20 VCC (power) hidden to VCC

## 74ALS841
designator U?
footprint DIP-24
pins: 1 ~{OC} (in), 2 1D (in), 3 2D (in), 4 3D (in), 5 4D (in), 6 5D (in), 7 6D (in), 8 7D (in), 9 8D (in), 10 9D (in), 11 10D (in), 12 GND (power) hidden to GND, 13 C (in), 14 10Q (out), 15 9Q (out), 16 8Q (out), 17 7Q (out), 18 6Q (out), 19 5Q (out), 20 4Q (out), 21 3Q (out), 22 2Q (out), 23 1Q (out), 24 VCC (power) hidden to VCC

## 74ALS842
designator U?
footprint DIP-24
pins: 1 ~{OC} (in), 2 1~{D} (in), 3 2~{D} (in), 4 3~{D} (in), 5 4~{D} (in), 6 5~{D} (in), 7 6~{D} (in), 8 7~{D} (in), 9 8~{D} (in), 10 9~{D} (in), 11 10D (in), 12 GND (power) hidden to GND, 13 C (in), 14 10Q (out), 15 9Q (out), 16 8Q (out), 17 7Q (out), 18 6Q (out), 19 5Q (out), 20 4Q (out), 21 3Q (out), 22 2Q (out), 23 1Q (out), 24 VCC (power) hidden to VCC

## 74ALS843
designator U?
footprint DIP-24
pins: 1 ~{OC} (in), 2 1D (in), 3 2D (in), 4 3D (in), 5 4D (in), 6 5D (in), 7 6D (in), 8 7D (in), 9 8D (in), 10 9D (in), 11 ~{CLR} (in), 12 GND (power) hidden to GND, 13 C (in), 14 ~{PRE} (in), 15 9Q (out), 16 8Q (out), 17 7Q (out), 18 6Q (out), 19 5Q (out), 20 4Q (out), 21 3Q (out), 22 2Q (out), 23 1Q (out), 24 VCC (power) hidden to VCC

## 74ALS844
designator U?
footprint DIP-24
pins: 1 ~{OC} (in), 2 1~{D} (in), 3 2~{D} (in), 4 3~{D} (in), 5 4~{D} (in), 6 5~{D} (in), 7 6~{D} (in), 8 7~{D} (in), 9 8~{D} (in), 10 9~{D} (in), 11 ~{CLR} (in), 12 GND (power) hidden to GND, 13 C (in), 14 ~{PRE} (in), 15 9Q (out), 16 8Q (out), 17 7Q (out), 18 6Q (out), 19 5Q (out), 20 4Q (out), 21 3Q (out), 22 2Q (out), 23 1Q (out), 24 VCC (power) hidden to VCC

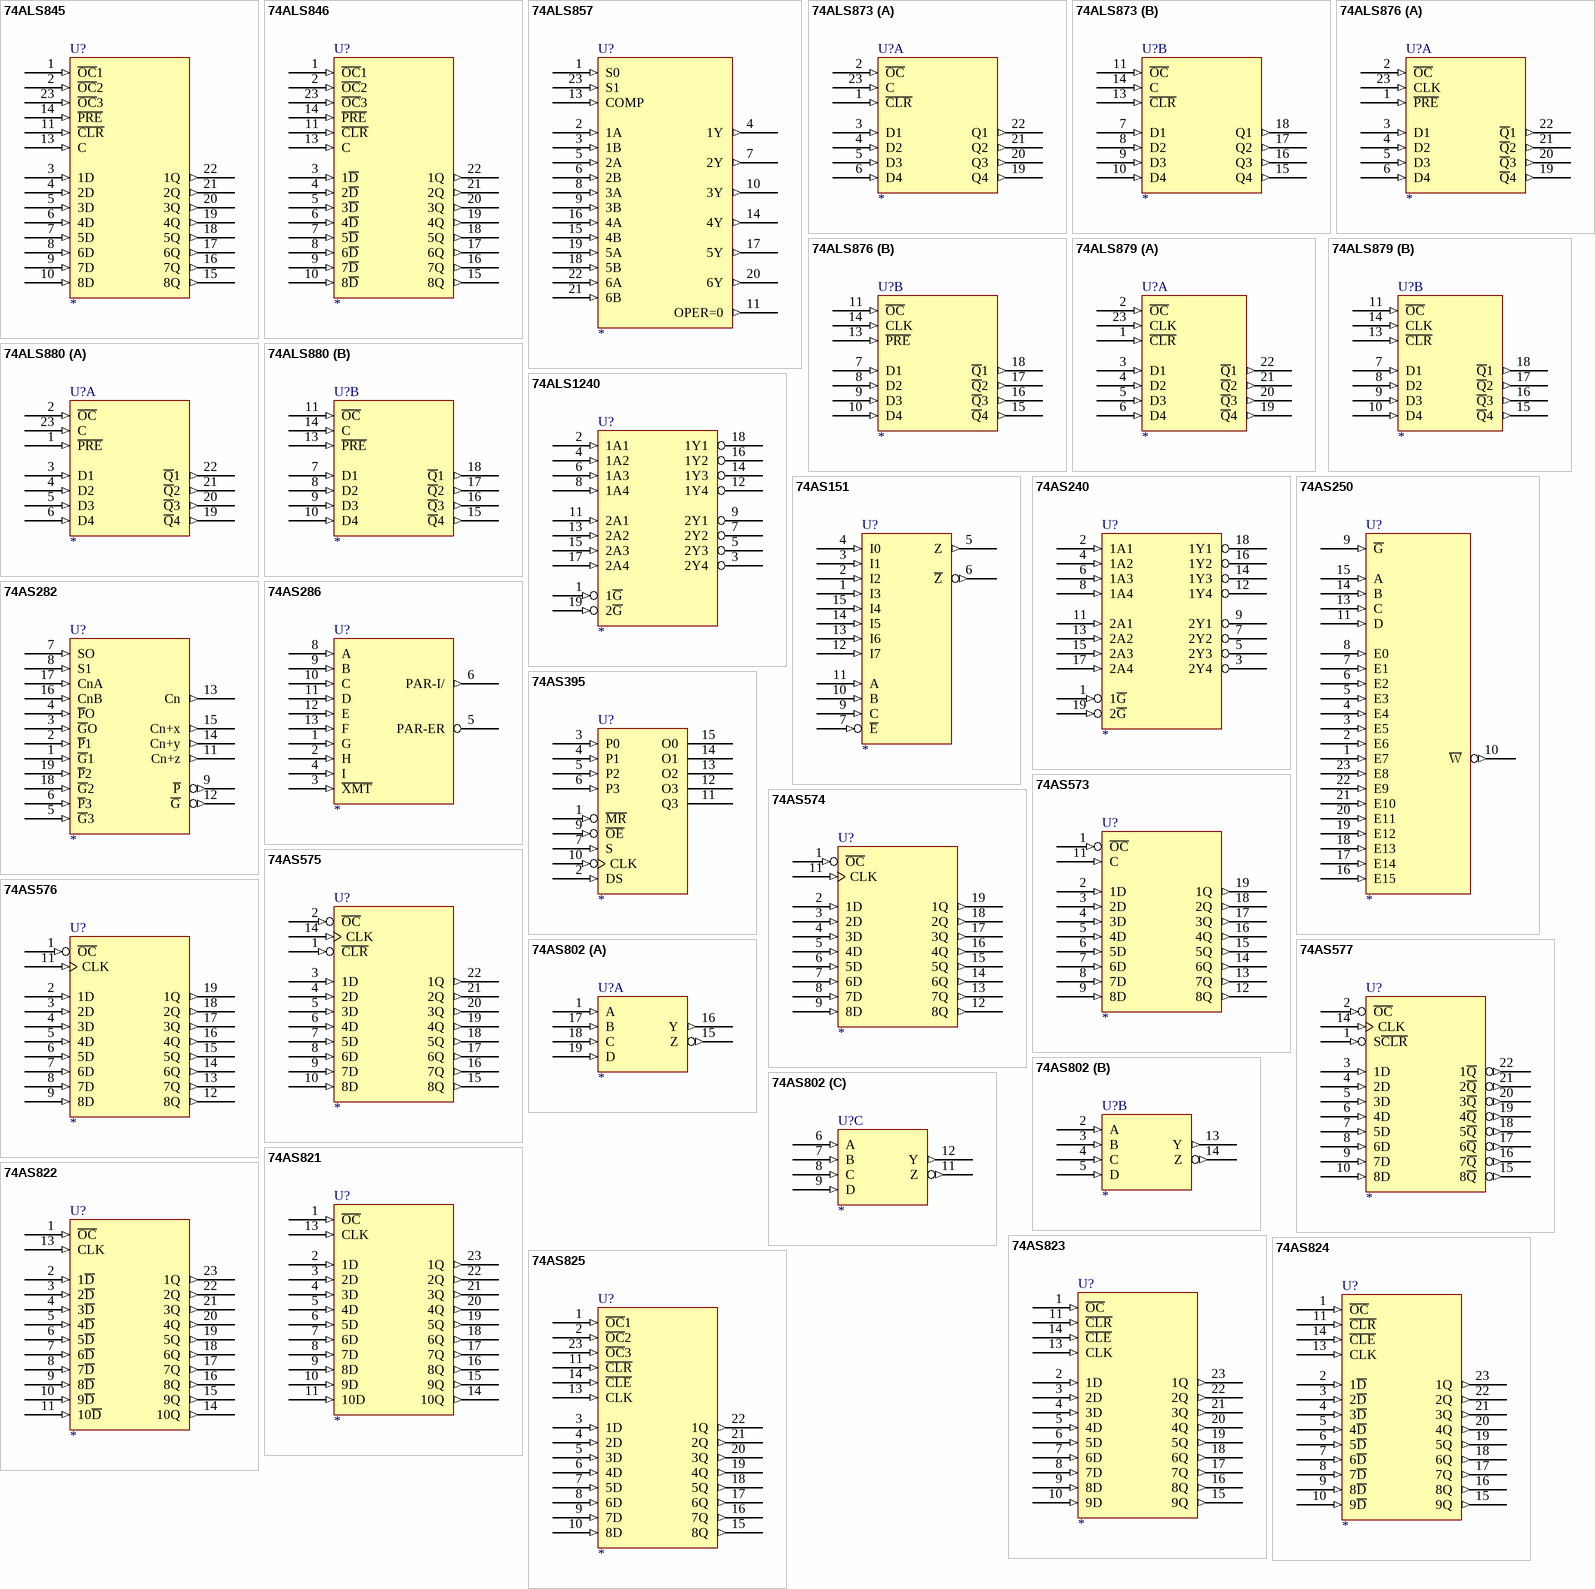
[diagram p70: symbols 74ALS845 to 74AS825]

## 74ALS845
designator U?
footprint DIP-24
pins: 1 ~{OC}1 (in), 2 ~{OC}2 (in), 3 1D (in), 4 2D (in), 5 3D (in), 6 4D (in), 7 5D (in), 8 6D (in), 9 7D (in), 10 8D (in), 11 ~{CLR} (in), 12 GND (power) hidden to GND, 13 C (in), 14 ~{PRE} (in), 15 8Q (out), 16 7Q (out), 17 6Q (out), 18 5Q (out), 19 4Q (out), 20 3Q (out), 21 2Q (out), 22 1Q (out), 23 ~{OC}3 (in), 24 VCC (power) hidden to VCC

## 74ALS846
designator U?
footprint DIP-24
pins: 1 ~{OC}1 (in), 2 ~{OC}2 (in), 3 1~{D} (in), 4 2~{D} (in), 5 3~{D} (in), 6 4~{D} (in), 7 5~{D} (in), 8 6~{D} (in), 9 7~{D} (in), 10 8~{D} (in), 11 ~{CLR} (in), 12 GND (power) hidden to GND, 13 C (in), 14 ~{PRE} (in), 15 8Q (out), 16 7Q (out), 17 6Q (out), 18 5Q (out), 19 4Q (out), 20 3Q (out), 21 2Q (out), 22 1Q (out), 23 ~{OC}3 (in), 24 VCC (power) hidden to VCC